# Altium schematic symbol library MCU_ST_STM32H7.SchLib: 225 symbols (part 5 of 9)
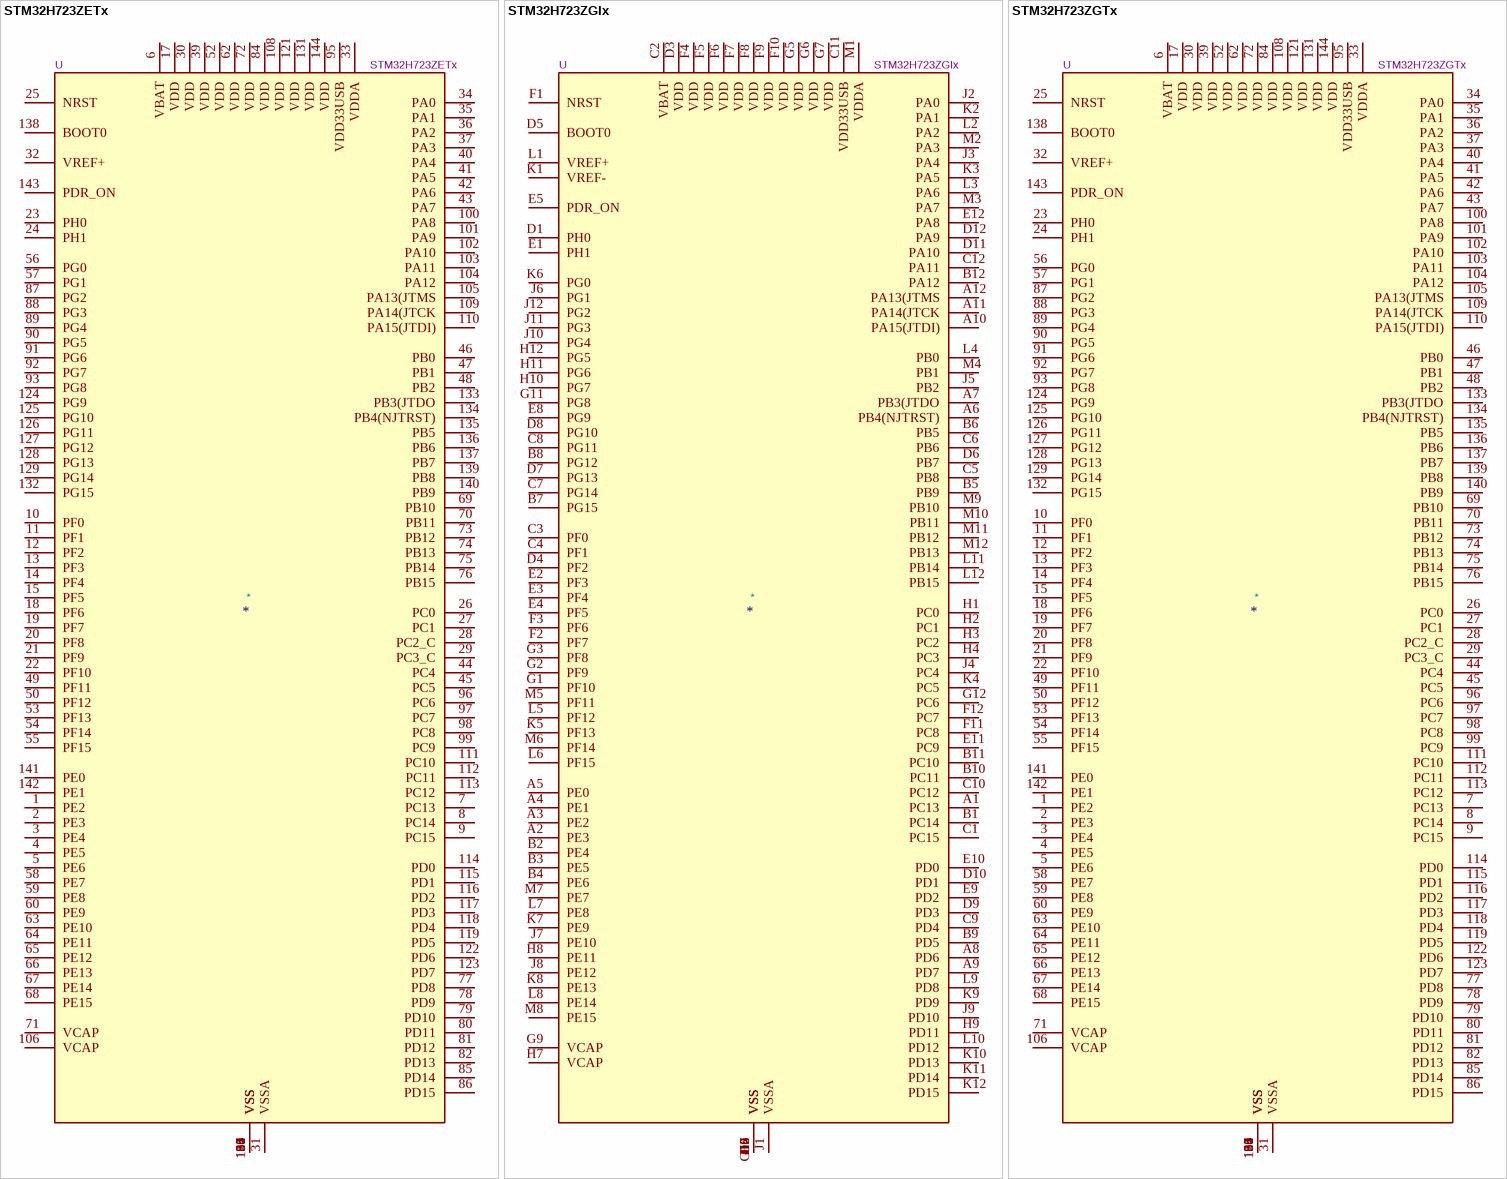
[diagram p91: symbols STM32H723ZETx to STM32H723ZGTx]

## STM32H723ZGTx
designator *  value STM32H723ZGTx  Reference: U
STMicroelectronics Arm Cortex-M7 MCU, 1024KB flash, 564KB RAM, 550 MHz, 1.62-3.6V, 114 GPIO, LQFP144; ki_keywords: Arm Cortex-M7 STM32H7 STM32H723/733; ki_fp_filters: LQFP*20x20mm*P0.5mm*; Footprint: Package_QFP:LQFP-144_20x20mm_P0.5mm; Datasheet: https://www.st.com/resource/en/datasheet/stm32h723zg.pdf; Description_: STMicroelectronics Arm Cortex-M7 MCU, 1024KB flash, 564KB RAM, 550 MHz, 1.62-3.6V, 114 GPIO, LQFP144
pins: 1 PE2, 2 PE3, 3 PE4, 4 PE5, 5 PE6, 6 VBAT, 7 PC13, 8 PC14, 9 PC15, 10 PF0, 11 PF1, 12 PF2, 13 PF3, 14 PF4, 15 PF5, 16 VSS, 17 VDD, 18 PF6, 19 PF7, 20 PF8, 21 PF9, 22 PF10, 23 PH0, 24 PH1, 25 NRST, 26 PC0, 27 PC1, 28 PC2_C, 29 PC3_C, 30 VDD, 31 VSSA, 32 VREF+, 33 VDDA, 34 PA0, 35 PA1, 36 PA2, 37 PA3, 38 VSS, 39 VDD, 40 PA4, 41 PA5, 42 PA6, 43 PA7, 44 PC4, 45 PC5, 46 PB0, 47 PB1, 48 PB2, 49 PF11, 50 PF12, 51 VSS, 52 VDD, 53 PF13, 54 PF14, 55 PF15, 56 PG0, 57 PG1, 58 PE7, 59 PE8, 60 PE9, 61 VSS, 62 VDD, 63 PE10, 64 PE11, 65 PE12, 66 PE13, 67 PE14, 68 PE15, 69 PB10, 70 PB11, 71 VCAP, 72 VDD, 73 PB12, 74 PB13, 75 PB14, 76 PB15, 77 PD8, 78 PD9, 79 PD10, 80 PD11, 81 PD12, 82 PD13, 83 VSS, 84 VDD, 85 PD14, 86 PD15, 87 PG2, 88 PG3, 89 PG4, 90 PG5, 91 PG6, 92 PG7, 93 PG8, 94 VSS, 95 VDD33USB, 96 PC6, 97 PC7, 98 PC8, 99 PC9, 100 PA8, 101 PA9, 102 PA10, 103 PA11, 104 PA12, 105 PA13(JTMS, 106 VCAP, 107 VSS, 108 VDD, 109 PA14(JTCK, 110 PA15(JTDI), 111 PC10, 112 PC11, 113 PC12, 114 PD0, 115 PD1, 116 PD2, 117 PD3, 118 PD4, 119 PD5, 120 VSS, 121 VDD, 122 PD6, 123 PD7, 124 PG9, 125 PG10, 126 PG11, 127 PG12, 128 PG13, 129 PG14, 130 VSS, 131 VDD, 132 PG15, 133 PB3(JTDO, 134 PB4(NJTRST), 135 PB5, 136 PB6, 137 PB7, 138 BOOT0, 139 PB8, 140 PB9, 141 PE0, 142 PE1, 143 PDR_ON, 144 VDD

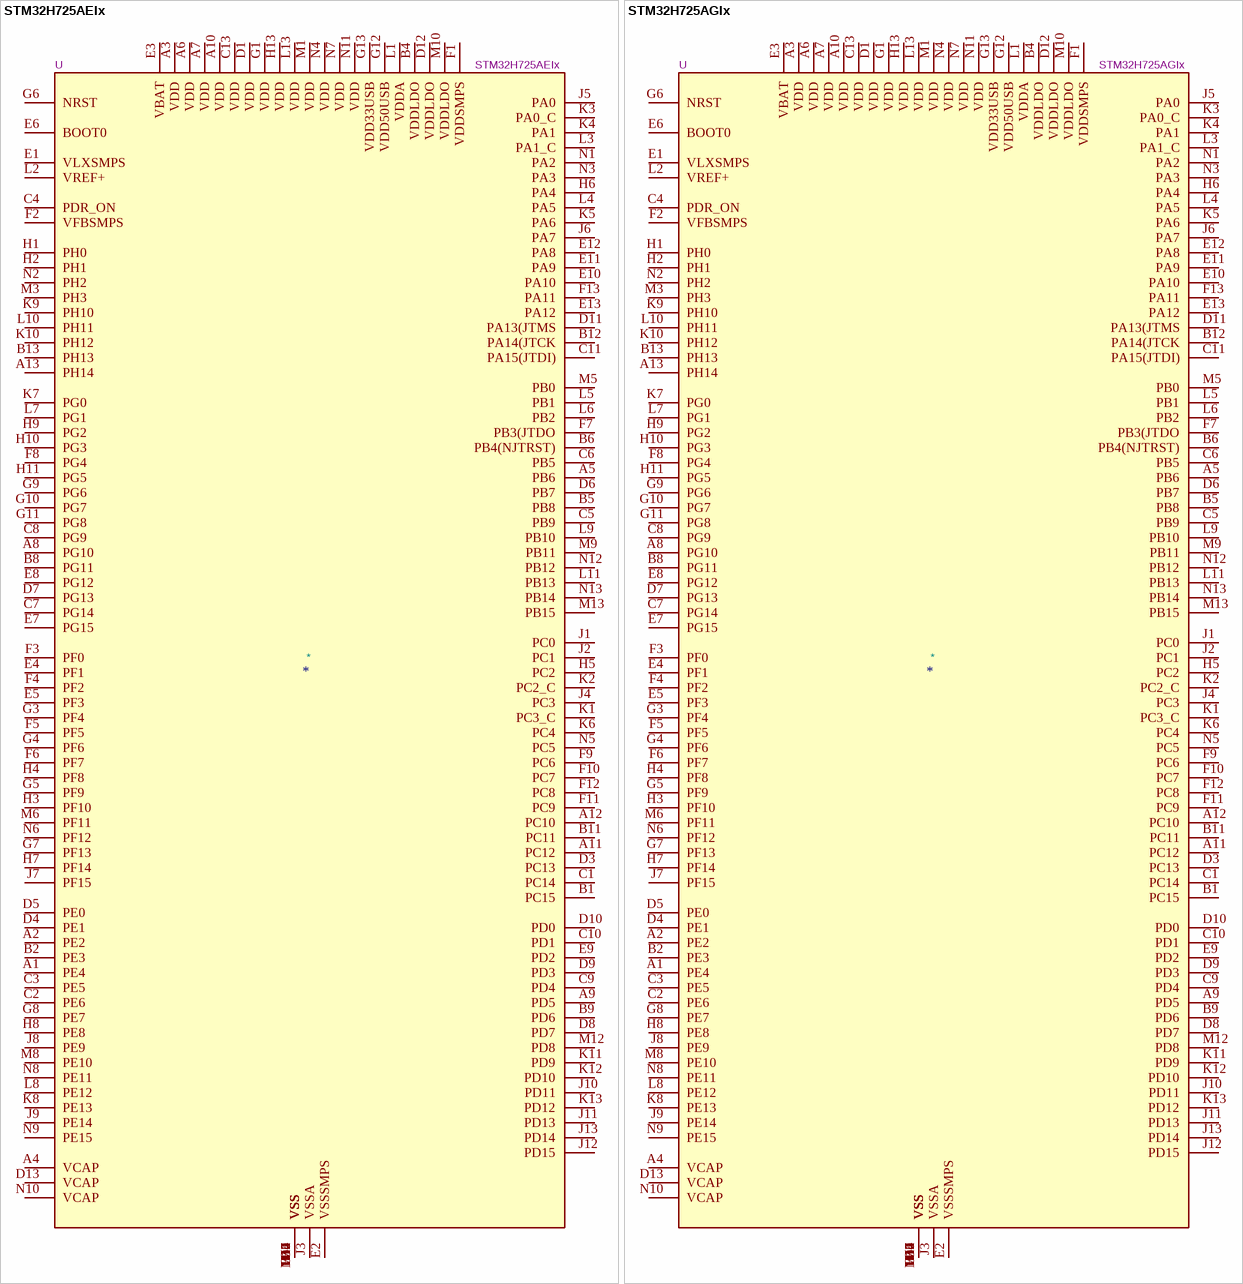
[diagram p41: symbols STM32H725AEIx to STM32H725AGIx]

## STM32H725AEIx
designator *  value STM32H725AEIx  Reference: U
STMicroelectronics Arm Cortex-M7 MCU, 512KB flash, 564KB RAM, 550 MHz, 1.62-3.6V, 125 GPIO, UFBGA169; ki_keywords: Arm Cortex-M7 STM32H7 STM32H725/735; ki_fp_filters: UFBGA*7x7mm*Layout13x13*P0.5mm*; Footprint: Package_BGA:UFBGA-169_7x7mm_Layout13x13_P0.5mm; Datasheet: https://www.st.com/resource/en/datasheet/stm32h725ae.pdf; Description_: STMicroelectronics Arm Cortex-M7 MCU, 512KB flash, 564KB RAM, 550 MHz, 1.62-3.6V, 125 GPIO, UFBGA169
pins: A1 PE4, A2 PE2, A3 VDD, A4 VCAP, A5 PB6, A6 VDD, A7 VDD, A8 PG10, A9 PD5, A10 VDD, A11 PC12, A12 PC10, A13 PH14, B1 PC15, B2 PE3, B3 VSS, B4 VDDLDO, B5 PB8, B6 PB4(NJTRST), B7 VSS, B8 PG11, B9 PD6, B10 VSS, B11 PC11, B12 PA14(JTCK, B13 PH13, C1 PC14, C2 PE6, C3 PE5, C4 PDR_ON, C5 PB9, C6 PB5, C7 PG14, C8 PG9, C9 PD4, C10 PD1, C11 PA15(JTDI), C12 VSS, C13 VDD, D1 VDD, D2 VSS, D3 PC13, D4 PE1, D5 PE0, D6 PB7, D7 PG13, D8 PD7, D9 PD3, D10 PD0, D11 PA13(JTMS, D12 VDDLDO, D13 VCAP, E1 VLXSMPS, E2 VSSSMPS, E3 VBAT, E4 PF1, E5 PF3, E6 BOOT0, E7 PG15, E8 PG12, E9 PD2, E10 PA10, E11 PA9, E12 PA8, E13 PA12, F1 VDDSMPS, F2 VFBSMPS, F3 PF0, F4 PF2, F5 PF5, F6 PF7, F7 PB3(JTDO, F8 PG4, F9 PC6, F10 PC7, F11 PC9, F12 PC8, F13 PA11, G1 VDD, G2 VSS, G3 PF4, G4 PF6, G5 PF9, G6 NRST, G7 PF13, G8 PE7, G9 PG6, G10 PG7, G11 PG8, G12 VDD50USB, G13 VDD33USB, H1 PH0, H2 PH1, H3 PF10, H4 PF8, H5 PC2, H6 PA4, H7 PF14, H8 PE8, H9 PG2, H10 PG3, H11 PG5, H12 VSS, H13 VDD, J1 PC0, J2 PC1, J3 VSSA, J4 PC3, J5 PA0, J6 PA7, J7 PF15, J8 PE9, J9 PE14, J10 PD11, J11 PD13, J12 PD15, J13 PD14, K1 PC3_C, K2 PC2_C, K3 PA0_C, K4 PA1, K5 PA6, K6 PC4, K7 PG0, K8 PE13, K9 PH10, K10 PH12, K11 PD9, K12 PD10, K13 PD12, L1 VDDA, L2 VREF+, L3 PA1_C, L4 PA5, L5 PB1, L6 PB2, L7 PG1, L8 PE12, L9 PB10, L10 PH11, L11 PB13, L12 VSS, L13 VDD, M1 VDD, M2 VSS, M3 PH3, M4 VSS, M5 PB0, M6 PF11, M7 VSS, M8 PE10, M9 PB11, M10 VDDLDO, M11 VSS, M12 PD8, M13 PB15, N1 PA2, N2 PH2, N3 PA3, N4 VDD, N5 PC5, N6 PF12, N7 VDD, N8 PE11, N9 PE15, N10 VCAP, N11 VDD, N12 PB12, N13 PB14

## STM32H725AGIx
designator *  value STM32H725AGIx  Reference: U
STMicroelectronics Arm Cortex-M7 MCU, 1024KB flash, 564KB RAM, 550 MHz, 1.62-3.6V, 125 GPIO, UFBGA169; ki_keywords: Arm Cortex-M7 STM32H7 STM32H725/735; ki_fp_filters: UFBGA*7x7mm*Layout13x13*P0.5mm*; Footprint: Package_BGA:UFBGA-169_7x7mm_Layout13x13_P0.5mm; Datasheet: https://www.st.com/resource/en/datasheet/stm32h725ag.pdf; Description_: STMicroelectronics Arm Cortex-M7 MCU, 1024KB flash, 564KB RAM, 550 MHz, 1.62-3.6V, 125 GPIO, UFBGA169
pins: A1 PE4, A2 PE2, A3 VDD, A4 VCAP, A5 PB6, A6 VDD, A7 VDD, A8 PG10, A9 PD5, A10 VDD, A11 PC12, A12 PC10, A13 PH14, B1 PC15, B2 PE3, B3 VSS, B4 VDDLDO, B5 PB8, B6 PB4(NJTRST), B7 VSS, B8 PG11, B9 PD6, B10 VSS, B11 PC11, B12 PA14(JTCK, B13 PH13, C1 PC14, C2 PE6, C3 PE5, C4 PDR_ON, C5 PB9, C6 PB5, C7 PG14, C8 PG9, C9 PD4, C10 PD1, C11 PA15(JTDI), C12 VSS, C13 VDD, D1 VDD, D2 VSS, D3 PC13, D4 PE1, D5 PE0, D6 PB7, D7 PG13, D8 PD7, D9 PD3, D10 PD0, D11 PA13(JTMS, D12 VDDLDO, D13 VCAP, E1 VLXSMPS, E2 VSSSMPS, E3 VBAT, E4 PF1, E5 PF3, E6 BOOT0, E7 PG15, E8 PG12, E9 PD2, E10 PA10, E11 PA9, E12 PA8, E13 PA12, F1 VDDSMPS, F2 VFBSMPS, F3 PF0, F4 PF2, F5 PF5, F6 PF7, F7 PB3(JTDO, F8 PG4, F9 PC6, F10 PC7, F11 PC9, F12 PC8, F13 PA11, G1 VDD, G2 VSS, G3 PF4, G4 PF6, G5 PF9, G6 NRST, G7 PF13, G8 PE7, G9 PG6, G10 PG7, G11 PG8, G12 VDD50USB, G13 VDD33USB, H1 PH0, H2 PH1, H3 PF10, H4 PF8, H5 PC2, H6 PA4, H7 PF14, H8 PE8, H9 PG2, H10 PG3, H11 PG5, H12 VSS, H13 VDD, J1 PC0, J2 PC1, J3 VSSA, J4 PC3, J5 PA0, J6 PA7, J7 PF15, J8 PE9, J9 PE14, J10 PD11, J11 PD13, J12 PD15, J13 PD14, K1 PC3_C, K2 PC2_C, K3 PA0_C, K4 PA1, K5 PA6, K6 PC4, K7 PG0, K8 PE13, K9 PH10, K10 PH12, K11 PD9, K12 PD10, K13 PD12, L1 VDDA, L2 VREF+, L3 PA1_C, L4 PA5, L5 PB1, L6 PB2, L7 PG1, L8 PE12, L9 PB10, L10 PH11, L11 PB13, L12 VSS, L13 VDD, M1 VDD, M2 VSS, M3 PH3, M4 VSS, M5 PB0, M6 PF11, M7 VSS, M8 PE10, M9 PB11, M10 VDDLDO, M11 VSS, M12 PD8, M13 PB15, N1 PA2, N2 PH2, N3 PA3, N4 VDD, N5 PC5, N6 PF12, N7 VDD, N8 PE11, N9 PE15, N10 VCAP, N11 VDD, N12 PB12, N13 PB14

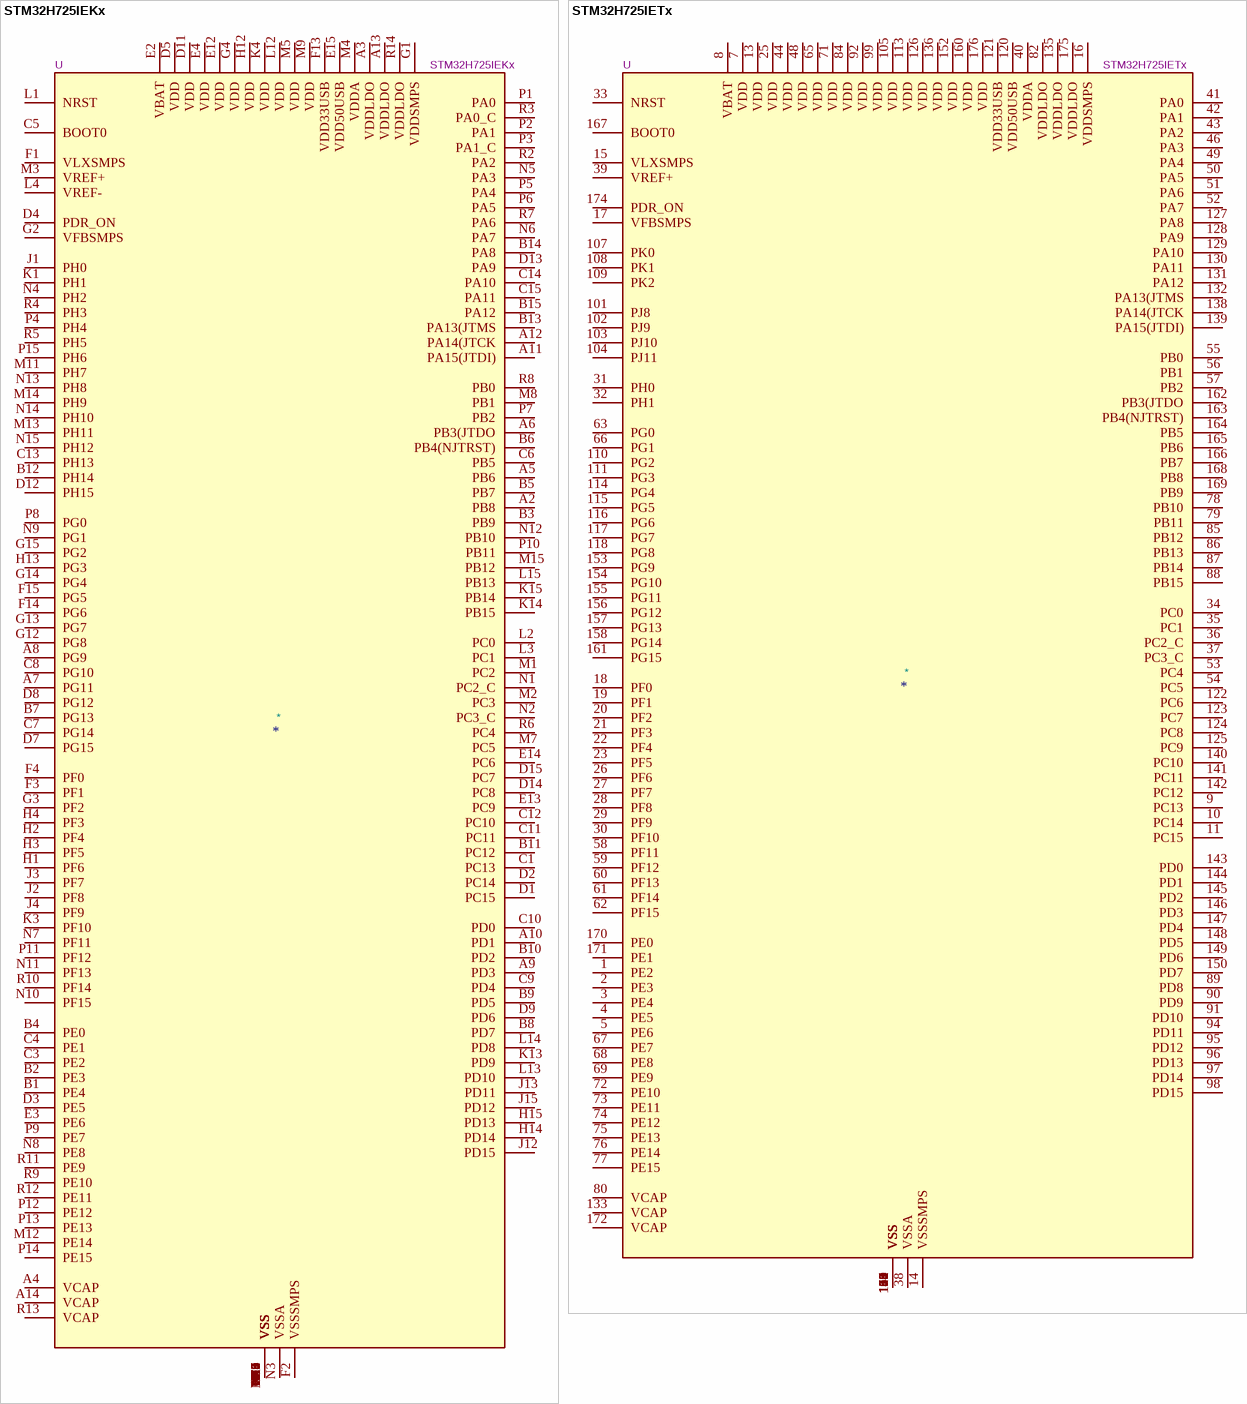
[diagram p42: symbols STM32H725IEKx to STM32H725IETx]

## STM32H725IEKx
designator *  value STM32H725IEKx  Reference: U
STMicroelectronics Arm Cortex-M7 MCU, 512KB flash, 564KB RAM, 550 MHz, 1.62-3.6V, 132 GPIO, UFBGA176; ki_keywords: Arm Cortex-M7 STM32H7 STM32H725/735; ki_fp_filters: UFBGA*10x10mm*Layout15x15*P0.65mm*; Footprint: Package_BGA:UFBGA-201_10x10mm_Layout15x15_P0.65mm; Datasheet: https://www.st.com/resource/en/datasheet/stm32h725ie.pdf; Description_: STMicroelectronics Arm Cortex-M7 MCU, 512KB flash, 564KB RAM, 550 MHz, 1.62-3.6V, 132 GPIO, UFBGA176
pins: A1 VSS, A2 PB8, A3 VDDLDO, A4 VCAP, A5 PB6, A6 PB3(JTDO, A7 PG11, A8 PG9, A9 PD3, A10 PD1, A11 PA15(JTDI), A12 PA14(JTCK, A13 VDDLDO, A14 VCAP, A15 VSS, B1 PE4, B2 PE3, B3 PB9, B4 PE0, B5 PB7, B6 PB4(NJTRST), B7 PG13, B8 PD7, B9 PD5, B10 PD2, B11 PC12, B12 PH14, B13 PA13(JTMS, B14 PA8, B15 PA12, C1 PC13, C2 VSS, C3 PE2, C4 PE1, C5 BOOT0, C6 PB5, C7 PG14, C8 PG10, C9 PD4, C10 PD0, C11 PC11, C12 PC10, C13 PH13, C14 PA10, C15 PA11, D1 PC15, D2 PC14, D3 PE5, D4 PDR_ON, D5 VDD, D6 VSS, D7 PG15, D8 PG12, D9 PD6, D10 VSS, D11 VDD, D12 PH15, D13 PA9, D14 PC8, D15 PC7, E1 VSS, E2 VBAT, E3 PE6, E4 VDD, E12 VDD, E13 PC9, E14 PC6, E15 VDD50USB, F1 VLXSMPS, F2 VSSSMPS, F3 PF1, F4 PF0, F6 VSS, F7 VSS, F8 VSS, F9 VSS, F10 VSS, F12 VSS, F13 VDD33USB, F14 PG6, F15 PG5, G1 VDDSMPS, G2 VFBSMPS, G3 PF2, G4 VDD, G6 VSS, G7 VSS, G8 VSS, G9 VSS, G10 VSS, G12 PG8, G13 PG7, G14 PG4, G15 PG2, H1 PF6, H2 PF4, H3 PF5, H4 PF3, H6 VSS, H7 VSS, H8 VSS, H9 VSS, H10 VSS, H12 VDD, H13 PG3, H14 PD14, H15 PD13, J1 PH0, J2 PF8, J3 PF7, J4 PF9, J6 VSS, J7 VSS, J8 VSS, J9 VSS, J10 VSS, J12 PD15, J13 PD11, J14 VSS, J15 PD12, K1 PH1, K2 VSS, K3 PF10, K4 VDD, K6 VSS, K7 VSS, K8 VSS, K9 VSS, K10 VSS, K12 VSS, K13 PD9, K14 PB15, K15 PB14, L1 NRST, L2 PC0, L3 PC1, L4 VREF-, L12 VDD, L13 PD10, L14 PD8, L15 PB13, M1 PC2, M2 PC3, M3 VREF+, M4 VDDA, M5 VDD, M6 VSS, M7 PC5, M8 PB1, M9 VDD, M10 VSS, M11 PH7, M12 PE14, M13 PH11, M14 PH9, M15 PB12, N1 PC2_C, N2 PC3_C, N3 VSSA, N4 PH2, N5 PA3, N6 PA7, N7 PF11, N8 PE8, N9 PG1, N10 PF15, N11 PF13, N12 PB10, N13 PH8, N14 PH10, N15 PH12, P1 PA0, P2 PA1, P3 PA1_C, P4 PH4, P5 PA4, P6 PA5, P7 PB2, P8 PG0, P9 PE7, P10 PB11, P11 PF12, P12 PE12, P13 PE13, P14 PE15, P15 PH6, R1 VSS, R2 PA2, R3 PA0_C, R4 PH3, R5 PH5, R6 PC4, R7 PA6, R8 PB0, R9 PE10, R10 PF14, R11 PE9, R12 PE11, R13 VCAP, R14 VDDLDO, R15 VSS

## STM32H725IETx
designator *  value STM32H725IETx  Reference: U
STMicroelectronics Arm Cortex-M7 MCU, 512KB flash, 564KB RAM, 550 MHz, 1.62-3.6V, 121 GPIO, LQFP176; ki_keywords: Arm Cortex-M7 STM32H7 STM32H725/735; ki_fp_filters: LQFP*24x24mm*P0.5mm*; Footprint: Package_QFP:LQFP-176_24x24mm_P0.5mm; Datasheet: https://www.st.com/resource/en/datasheet/stm32h725ie.pdf; Description_: STMicroelectronics Arm Cortex-M7 MCU, 512KB flash, 564KB RAM, 550 MHz, 1.62-3.6V, 121 GPIO, LQFP176
pins: 1 PE2, 2 PE3, 3 PE4, 4 PE5, 5 PE6, 6 VSS, 7 VDD, 8 VBAT, 9 PC13, 10 PC14, 11 PC15, 12 VSS, 13 VDD, 14 VSSSMPS, 15 VLXSMPS, 16 VDDSMPS, 17 VFBSMPS, 18 PF0, 19 PF1, 20 PF2, 21 PF3, 22 PF4, 23 PF5, 24 VSS, 25 VDD, 26 PF6, 27 PF7, 28 PF8, 29 PF9, 30 PF10, 31 PH0, 32 PH1, 33 NRST, 34 PC0, 35 PC1, 36 PC2_C, 37 PC3_C, 38 VSSA, 39 VREF+, 40 VDDA, 41 PA0, 42 PA1, 43 PA2, 44 VDD, 45 VSS, 46 PA3, 47 VSS, 48 VDD, 49 PA4, 50 PA5, 51 PA6, 52 PA7, 53 PC4, 54 PC5, 55 PB0, 56 PB1, 57 PB2, 58 PF11, 59 PF12, 60 PF13, 61 PF14, 62 PF15, 63 PG0, 64 VSS, 65 VDD, 66 PG1, 67 PE7, 68 PE8, 69 PE9, 70 VSS, 71 VDD, 72 PE10, 73 PE11, 74 PE12, 75 PE13, 76 PE14, 77 PE15, 78 PB10, 79 PB11, 80 VCAP, 81 VSS, 82 VDDLDO, 83 VSS, 84 VDD, 85 PB12, 86 PB13, 87 PB14, 88 PB15, 89 PD8, 90 PD9, 91 PD10, 92 VDD, 93 VSS, 94 PD11, 95 PD12, 96 PD13, 97 PD14, 98 PD15, 99 VDD, 100 VSS, 101 PJ8, 102 PJ9, 103 PJ10, 104 PJ11, 105 VDD, 106 VSS, 107 PK0, 108 PK1, 109 PK2, 110 PG2, 111 PG3, 112 VSS, 113 VDD, 114 PG4, 115 PG5, 116 PG6, 117 PG7, 118 PG8, 119 VSS, 120 VDD50USB, 121 VDD33USB, 122 PC6, 123 PC7, 124 PC8, 125 PC9, 126 VDD, 127 PA8, 128 PA9, 129 PA10, 130 PA11, 131 PA12, 132 PA13(JTMS, 133 VCAP, 134 VSS, 135 VDDLDO, 136 VDD, 137 VSS, 138 PA14(JTCK, 139 PA15(JTDI), 140 PC10, 141 PC11, 142 PC12, 143 PD0, 144 PD1, 145 PD2, 146 PD3, 147 PD4, 148 PD5, 149 PD6, 150 PD7, 151 VSS, 152 VDD, 153 PG9, 154 PG10, 155 PG11, 156 PG12, 157 PG13, 158 PG14, 159 VSS, 160 VDD, 161 PG15, 162 PB3(JTDO, 163 PB4(NJTRST), 164 PB5, 165 PB6, 166 PB7, 167 BOOT0, 168 PB8, 169 PB9, 170 PE0, 171 PE1, 172 VCAP, 173 VSS, 174 PDR_ON, 175 VDDLDO, 176 VDD

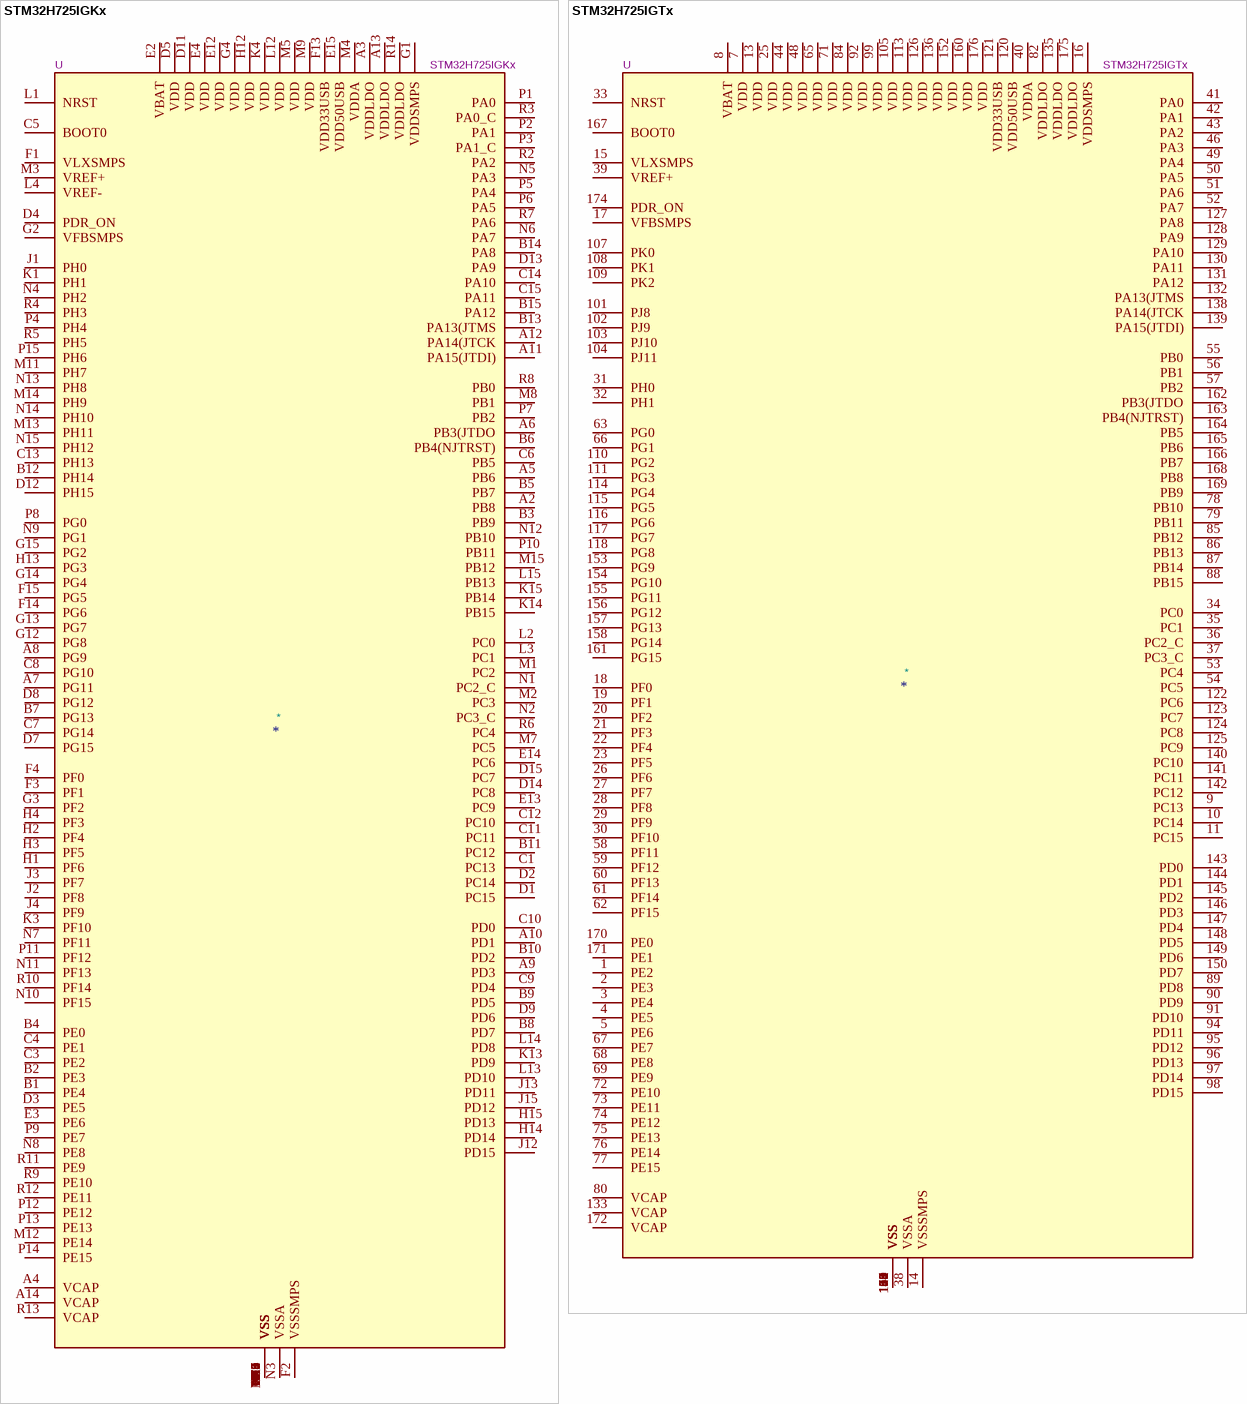
[diagram p43: symbols STM32H725IGKx to STM32H725IGTx]

## STM32H725IGKx
designator *  value STM32H725IGKx  Reference: U
STMicroelectronics Arm Cortex-M7 MCU, 1024KB flash, 564KB RAM, 550 MHz, 1.62-3.6V, 132 GPIO, UFBGA176; ki_keywords: Arm Cortex-M7 STM32H7 STM32H725/735; ki_fp_filters: UFBGA*10x10mm*Layout15x15*P0.65mm*; Footprint: Package_BGA:UFBGA-201_10x10mm_Layout15x15_P0.65mm; Datasheet: https://www.st.com/resource/en/datasheet/stm32h725ig.pdf; Description_: STMicroelectronics Arm Cortex-M7 MCU, 1024KB flash, 564KB RAM, 550 MHz, 1.62-3.6V, 132 GPIO, UFBGA176
pins: A1 VSS, A2 PB8, A3 VDDLDO, A4 VCAP, A5 PB6, A6 PB3(JTDO, A7 PG11, A8 PG9, A9 PD3, A10 PD1, A11 PA15(JTDI), A12 PA14(JTCK, A13 VDDLDO, A14 VCAP, A15 VSS, B1 PE4, B2 PE3, B3 PB9, B4 PE0, B5 PB7, B6 PB4(NJTRST), B7 PG13, B8 PD7, B9 PD5, B10 PD2, B11 PC12, B12 PH14, B13 PA13(JTMS, B14 PA8, B15 PA12, C1 PC13, C2 VSS, C3 PE2, C4 PE1, C5 BOOT0, C6 PB5, C7 PG14, C8 PG10, C9 PD4, C10 PD0, C11 PC11, C12 PC10, C13 PH13, C14 PA10, C15 PA11, D1 PC15, D2 PC14, D3 PE5, D4 PDR_ON, D5 VDD, D6 VSS, D7 PG15, D8 PG12, D9 PD6, D10 VSS, D11 VDD, D12 PH15, D13 PA9, D14 PC8, D15 PC7, E1 VSS, E2 VBAT, E3 PE6, E4 VDD, E12 VDD, E13 PC9, E14 PC6, E15 VDD50USB, F1 VLXSMPS, F2 VSSSMPS, F3 PF1, F4 PF0, F6 VSS, F7 VSS, F8 VSS, F9 VSS, F10 VSS, F12 VSS, F13 VDD33USB, F14 PG6, F15 PG5, G1 VDDSMPS, G2 VFBSMPS, G3 PF2, G4 VDD, G6 VSS, G7 VSS, G8 VSS, G9 VSS, G10 VSS, G12 PG8, G13 PG7, G14 PG4, G15 PG2, H1 PF6, H2 PF4, H3 PF5, H4 PF3, H6 VSS, H7 VSS, H8 VSS, H9 VSS, H10 VSS, H12 VDD, H13 PG3, H14 PD14, H15 PD13, J1 PH0, J2 PF8, J3 PF7, J4 PF9, J6 VSS, J7 VSS, J8 VSS, J9 VSS, J10 VSS, J12 PD15, J13 PD11, J14 VSS, J15 PD12, K1 PH1, K2 VSS, K3 PF10, K4 VDD, K6 VSS, K7 VSS, K8 VSS, K9 VSS, K10 VSS, K12 VSS, K13 PD9, K14 PB15, K15 PB14, L1 NRST, L2 PC0, L3 PC1, L4 VREF-, L12 VDD, L13 PD10, L14 PD8, L15 PB13, M1 PC2, M2 PC3, M3 VREF+, M4 VDDA, M5 VDD, M6 VSS, M7 PC5, M8 PB1, M9 VDD, M10 VSS, M11 PH7, M12 PE14, M13 PH11, M14 PH9, M15 PB12, N1 PC2_C, N2 PC3_C, N3 VSSA, N4 PH2, N5 PA3, N6 PA7, N7 PF11, N8 PE8, N9 PG1, N10 PF15, N11 PF13, N12 PB10, N13 PH8, N14 PH10, N15 PH12, P1 PA0, P2 PA1, P3 PA1_C, P4 PH4, P5 PA4, P6 PA5, P7 PB2, P8 PG0, P9 PE7, P10 PB11, P11 PF12, P12 PE12, P13 PE13, P14 PE15, P15 PH6, R1 VSS, R2 PA2, R3 PA0_C, R4 PH3, R5 PH5, R6 PC4, R7 PA6, R8 PB0, R9 PE10, R10 PF14, R11 PE9, R12 PE11, R13 VCAP, R14 VDDLDO, R15 VSS

## STM32H725IGTx
designator *  value STM32H725IGTx  Reference: U
STMicroelectronics Arm Cortex-M7 MCU, 1024KB flash, 564KB RAM, 550 MHz, 1.62-3.6V, 121 GPIO, LQFP176; ki_keywords: Arm Cortex-M7 STM32H7 STM32H725/735; ki_fp_filters: LQFP*24x24mm*P0.5mm*; Footprint: Package_QFP:LQFP-176_24x24mm_P0.5mm; Datasheet: https://www.st.com/resource/en/datasheet/stm32h725ig.pdf; Description_: STMicroelectronics Arm Cortex-M7 MCU, 1024KB flash, 564KB RAM, 550 MHz, 1.62-3.6V, 121 GPIO, LQFP176
pins: 1 PE2, 2 PE3, 3 PE4, 4 PE5, 5 PE6, 6 VSS, 7 VDD, 8 VBAT, 9 PC13, 10 PC14, 11 PC15, 12 VSS, 13 VDD, 14 VSSSMPS, 15 VLXSMPS, 16 VDDSMPS, 17 VFBSMPS, 18 PF0, 19 PF1, 20 PF2, 21 PF3, 22 PF4, 23 PF5, 24 VSS, 25 VDD, 26 PF6, 27 PF7, 28 PF8, 29 PF9, 30 PF10, 31 PH0, 32 PH1, 33 NRST, 34 PC0, 35 PC1, 36 PC2_C, 37 PC3_C, 38 VSSA, 39 VREF+, 40 VDDA, 41 PA0, 42 PA1, 43 PA2, 44 VDD, 45 VSS, 46 PA3, 47 VSS, 48 VDD, 49 PA4, 50 PA5, 51 PA6, 52 PA7, 53 PC4, 54 PC5, 55 PB0, 56 PB1, 57 PB2, 58 PF11, 59 PF12, 60 PF13, 61 PF14, 62 PF15, 63 PG0, 64 VSS, 65 VDD, 66 PG1, 67 PE7, 68 PE8, 69 PE9, 70 VSS, 71 VDD, 72 PE10, 73 PE11, 74 PE12, 75 PE13, 76 PE14, 77 PE15, 78 PB10, 79 PB11, 80 VCAP, 81 VSS, 82 VDDLDO, 83 VSS, 84 VDD, 85 PB12, 86 PB13, 87 PB14, 88 PB15, 89 PD8, 90 PD9, 91 PD10, 92 VDD, 93 VSS, 94 PD11, 95 PD12, 96 PD13, 97 PD14, 98 PD15, 99 VDD, 100 VSS, 101 PJ8, 102 PJ9, 103 PJ10, 104 PJ11, 105 VDD, 106 VSS, 107 PK0, 108 PK1, 109 PK2, 110 PG2, 111 PG3, 112 VSS, 113 VDD, 114 PG4, 115 PG5, 116 PG6, 117 PG7, 118 PG8, 119 VSS, 120 VDD50USB, 121 VDD33USB, 122 PC6, 123 PC7, 124 PC8, 125 PC9, 126 VDD, 127 PA8, 128 PA9, 129 PA10, 130 PA11, 131 PA12, 132 PA13(JTMS, 133 VCAP, 134 VSS, 135 VDDLDO, 136 VDD, 137 VSS, 138 PA14(JTCK, 139 PA15(JTDI), 140 PC10, 141 PC11, 142 PC12, 143 PD0, 144 PD1, 145 PD2, 146 PD3, 147 PD4, 148 PD5, 149 PD6, 150 PD7, 151 VSS, 152 VDD, 153 PG9, 154 PG10, 155 PG11, 156 PG12, 157 PG13, 158 PG14, 159 VSS, 160 VDD, 161 PG15, 162 PB3(JTDO, 163 PB4(NJTRST), 164 PB5, 165 PB6, 166 PB7, 167 BOOT0, 168 PB8, 169 PB9, 170 PE0, 171 PE1, 172 VCAP, 173 VSS, 174 PDR_ON, 175 VDDLDO, 176 VDD

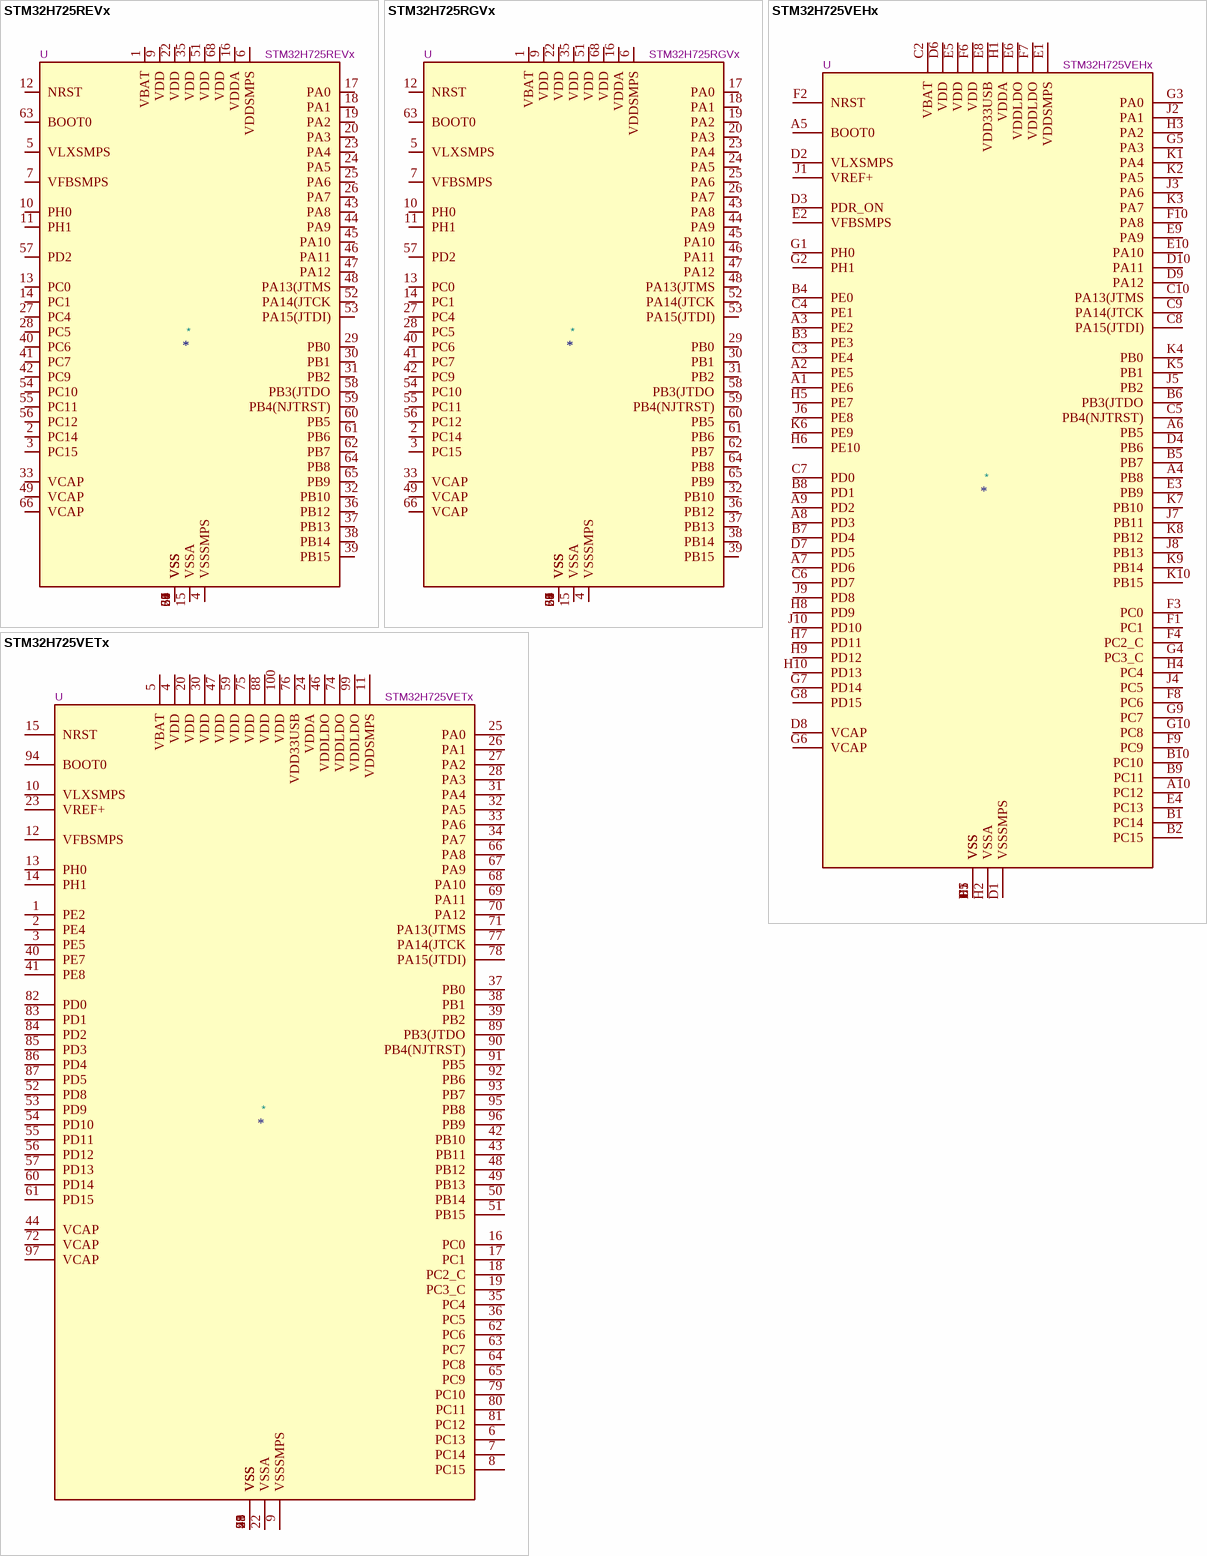
[diagram p44: symbols STM32H725REVx to STM32H725VETx]

## STM32H725REVx
designator *  value STM32H725REVx  Reference: U
STMicroelectronics Arm Cortex-M7 MCU, 512KB flash, 564KB RAM, 550 MHz, 1.71-3.6V, 46 GPIO, VFQFPN68; ki_keywords: Arm Cortex-M7 STM32H7 STM32H725/735; ki_fp_filters: QFN*1EP*8x8mm*P0.4mm*; Footprint: Package_DFN_QFN:QFN-68-1EP_8x8mm_P0.4mm_EP6.4x6.4mm; Datasheet: https://www.st.com/resource/en/datasheet/stm32h725re.pdf; Description_: STMicroelectronics Arm Cortex-M7 MCU, 512KB flash, 564KB RAM, 550 MHz, 1.71-3.6V, 46 GPIO, VFQFPN68
pins: 1 VBAT, 2 PC14, 3 PC15, 4 VSSSMPS, 5 VLXSMPS, 6 VDDSMPS, 7 VFBSMPS, 8 VSS, 9 VDD, 10 PH0, 11 PH1, 12 NRST, 13 PC0, 14 PC1, 15 VSSA, 16 VDDA, 17 PA0, 18 PA1, 19 PA2, 20 PA3, 21 VSS, 22 VDD, 23 PA4, 24 PA5, 25 PA6, 26 PA7, 27 PC4, 28 PC5, 29 PB0, 30 PB1, 31 PB2, 32 PB10, 33 VCAP, 34 VSS, 35 VDD, 36 PB12, 37 PB13, 38 PB14, 39 PB15, 40 PC6, 41 PC7, 42 PC9, 43 PA8, 44 PA9, 45 PA10, 46 PA11, 47 PA12, 48 PA13(JTMS, 49 VCAP, 50 VSS, 51 VDD, 52 PA14(JTCK, 53 PA15(JTDI), 54 PC10, 55 PC11, 56 PC12, 57 PD2, 58 PB3(JTDO, 59 PB4(NJTRST), 60 PB5, 61 PB6, 62 PB7, 63 BOOT0, 64 PB8, 65 PB9, 66 VCAP, 67 VSS, 68 VDD, 69 VSS

## STM32H725RGVx
designator *  value STM32H725RGVx  Reference: U
STMicroelectronics Arm Cortex-M7 MCU, 1024KB flash, 564KB RAM, 550 MHz, 1.71-3.6V, 46 GPIO, VFQFPN68; ki_keywords: Arm Cortex-M7 STM32H7 STM32H725/735; ki_fp_filters: QFN*1EP*8x8mm*P0.4mm*; Footprint: Package_DFN_QFN:QFN-68-1EP_8x8mm_P0.4mm_EP6.4x6.4mm; Datasheet: https://www.st.com/resource/en/datasheet/stm32h725rg.pdf; Description_: STMicroelectronics Arm Cortex-M7 MCU, 1024KB flash, 564KB RAM, 550 MHz, 1.71-3.6V, 46 GPIO, VFQFPN68
pins: 1 VBAT, 2 PC14, 3 PC15, 4 VSSSMPS, 5 VLXSMPS, 6 VDDSMPS, 7 VFBSMPS, 8 VSS, 9 VDD, 10 PH0, 11 PH1, 12 NRST, 13 PC0, 14 PC1, 15 VSSA, 16 VDDA, 17 PA0, 18 PA1, 19 PA2, 20 PA3, 21 VSS, 22 VDD, 23 PA4, 24 PA5, 25 PA6, 26 PA7, 27 PC4, 28 PC5, 29 PB0, 30 PB1, 31 PB2, 32 PB10, 33 VCAP, 34 VSS, 35 VDD, 36 PB12, 37 PB13, 38 PB14, 39 PB15, 40 PC6, 41 PC7, 42 PC9, 43 PA8, 44 PA9, 45 PA10, 46 PA11, 47 PA12, 48 PA13(JTMS, 49 VCAP, 50 VSS, 51 VDD, 52 PA14(JTCK, 53 PA15(JTDI), 54 PC10, 55 PC11, 56 PC12, 57 PD2, 58 PB3(JTDO, 59 PB4(NJTRST), 60 PB5, 61 PB6, 62 PB7, 63 BOOT0, 64 PB8, 65 PB9, 66 VCAP, 67 VSS, 68 VDD, 69 VSS

## STM32H725VEHx
designator *  value STM32H725VEHx  Reference: U
STMicroelectronics Arm Cortex-M7 MCU, 512KB flash, 564KB RAM, 550 MHz, 1.62-3.6V, 77 GPIO, TFBGA100; ki_keywords: Arm Cortex-M7 STM32H7 STM32H725/735; ki_fp_filters: TFBGA*8x8mm*Layout10x10*P0.8mm*; Footprint: Package_BGA:TFBGA-100_8x8mm_Layout10x10_P0.8mm; Datasheet: https://www.st.com/resource/en/datasheet/stm32h725ve.pdf; Description_: STMicroelectronics Arm Cortex-M7 MCU, 512KB flash, 564KB RAM, 550 MHz, 1.62-3.6V, 77 GPIO, TFBGA100
pins: A1 PE6, A2 PE5, A3 PE2, A4 PB8, A5 BOOT0, A6 PB5, A7 PD6, A8 PD3, A9 PD2, A10 PC12, B1 PC14, B2 PC15, B3 PE3, B4 PE0, B5 PB7, B6 PB3(JTDO, B7 PD4, B8 PD1, B9 PC11, B10 PC10, C1 VSS, C2 VBAT, C3 PE4, C4 PE1, C5 PB4(NJTRST), C6 PD7, C7 PD0, C8 PA15(JTDI), C9 PA14(JTCK, C10 PA13(JTMS, D1 VSSSMPS, D2 VLXSMPS, D3 PDR_ON, D4 PB6, D5 VSS, D6 VDD, D7 PD5, D8 VCAP, D9 PA12, D10 PA11, E1 VDDSMPS, E2 VFBSMPS, E3 PB9, E4 PC13, E5 VDD, E6 VDDLDO, E7 VSS, E8 VDD33USB, E9 PA9, E10 PA10, F1 PC1, F2 NRST, F3 PC0, F4 PC2_C, F5 VSS, F6 VDD, F7 VDDLDO, F8 PC6, F9 PC9, F10 PA8, G1 PH0, G2 PH1, G3 PA0, G4 PC3_C, G5 PA3, G6 VCAP, G7 PD14, G8 PD15, G9 PC7, G10 PC8, H1 VDDA, H2 VSSA, H3 PA2, H4 PC4, H5 PE7, H6 PE10, H7 PD11, H8 PD9, H9 PD12, H10 PD13, J1 VREF+, J2 PA1, J3 PA6, J4 PC5, J5 PB2, J6 PE8, J7 PB11, J8 PB13, J9 PD8, J10 PD10, K1 PA4, K2 PA5, K3 PA7, K4 PB0, K5 PB1, K6 PE9, K7 PB10, K8 PB12, K9 PB14, K10 PB15

## STM32H725VETx
designator *  value STM32H725VETx  Reference: U
STMicroelectronics Arm Cortex-M7 MCU, 512KB flash, 564KB RAM, 550 MHz, 1.71-3.6V, 69 GPIO, LQFP100; ki_keywords: Arm Cortex-M7 STM32H7 STM32H725/735; ki_fp_filters: LQFP*14x14mm*P0.5mm*; Footprint: Package_QFP:LQFP-100_14x14mm_P0.5mm; Datasheet: https://www.st.com/resource/en/datasheet/stm32h725ve.pdf; Description_: STMicroelectronics Arm Cortex-M7 MCU, 512KB flash, 564KB RAM, 550 MHz, 1.71-3.6V, 69 GPIO, LQFP100
pins: 1 PE2, 2 PE4, 3 PE5, 4 VDD, 5 VBAT, 6 PC13, 7 PC14, 8 PC15, 9 VSSSMPS, 10 VLXSMPS, 11 VDDSMPS, 12 VFBSMPS, 13 PH0, 14 PH1, 15 NRST, 16 PC0, 17 PC1, 18 PC2_C, 19 PC3_C, 20 VDD, 21 VSS, 22 VSSA, 23 VREF+, 24 VDDA, 25 PA0, 26 PA1, 27 PA2, 28 PA3, 29 VSS, 30 VDD, 31 PA4, 32 PA5, 33 PA6, 34 PA7, 35 PC4, 36 PC5, 37 PB0, 38 PB1, 39 PB2, 40 PE7, 41 PE8, 42 PB10, 43 PB11, 44 VCAP, 45 VSS, 46 VDDLDO, 47 VDD, 48 PB12, 49 PB13, 50 PB14, 51 PB15, 52 PD8, 53 PD9, 54 PD10, 55 PD11, 56 PD12, 57 PD13, 58 VSS, 59 VDD, 60 PD14, 61 PD15, 62 PC6, 63 PC7, 64 PC8, 65 PC9, 66 PA8, 67 PA9, 68 PA10, 69 PA11, 70 PA12, 71 PA13(JTMS, 72 VCAP, 73 VSS, 74 VDDLDO, 75 VDD, 76 VDD33USB, 77 PA14(JTCK, 78 PA15(JTDI), 79 PC10, 80 PC11, 81 PC12, 82 PD0, 83 PD1, 84 PD2, 85 PD3, 86 PD4, 87 PD5, 88 VDD, 89 PB3(JTDO, 90 PB4(NJTRST), 91 PB5, 92 PB6, 93 PB7, 94 BOOT0, 95 PB8, 96 PB9, 97 VCAP, 98 VSS, 99 VDDLDO, 100 VDD

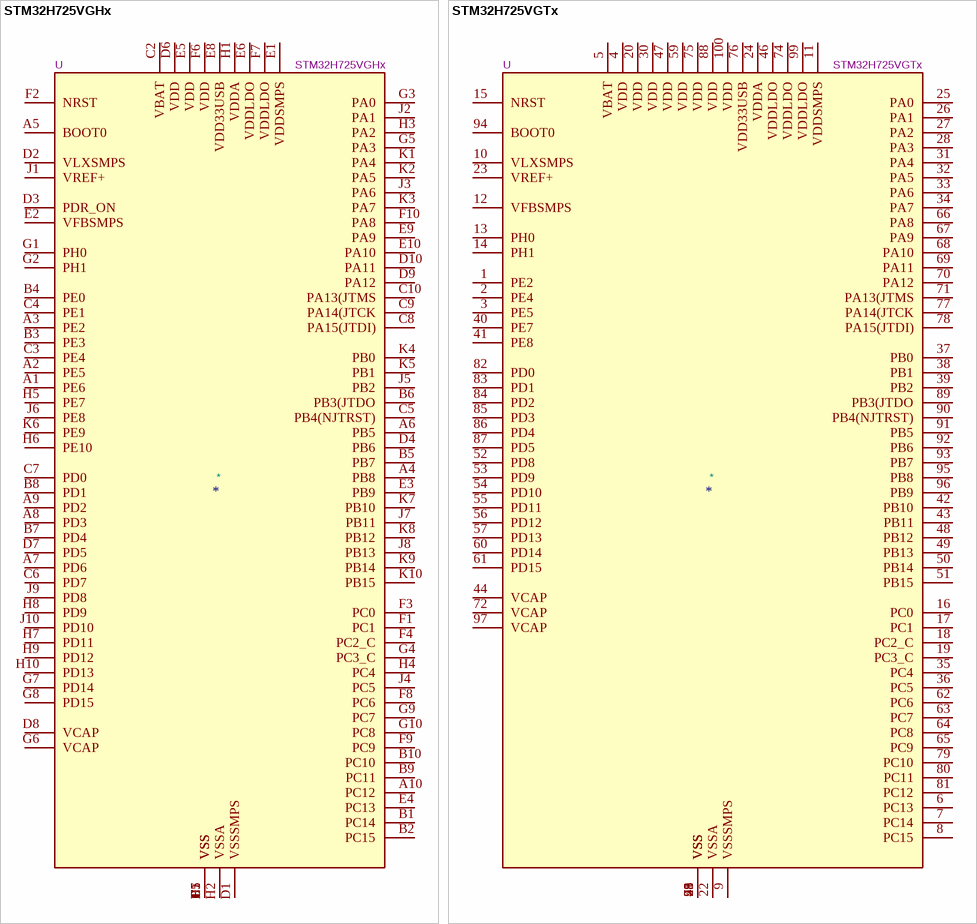
[diagram p45: symbols STM32H725VGHx to STM32H725VGTx]

## STM32H725VGHx
designator *  value STM32H725VGHx  Reference: U
STMicroelectronics Arm Cortex-M7 MCU, 1024KB flash, 564KB RAM, 550 MHz, 1.62-3.6V, 77 GPIO, TFBGA100; ki_keywords: Arm Cortex-M7 STM32H7 STM32H725/735; ki_fp_filters: TFBGA*8x8mm*Layout10x10*P0.8mm*; Footprint: Package_BGA:TFBGA-100_8x8mm_Layout10x10_P0.8mm; Datasheet: https://www.st.com/resource/en/datasheet/stm32h725vg.pdf; Description_: STMicroelectronics Arm Cortex-M7 MCU, 1024KB flash, 564KB RAM, 550 MHz, 1.62-3.6V, 77 GPIO, TFBGA100
pins: A1 PE6, A2 PE5, A3 PE2, A4 PB8, A5 BOOT0, A6 PB5, A7 PD6, A8 PD3, A9 PD2, A10 PC12, B1 PC14, B2 PC15, B3 PE3, B4 PE0, B5 PB7, B6 PB3(JTDO, B7 PD4, B8 PD1, B9 PC11, B10 PC10, C1 VSS, C2 VBAT, C3 PE4, C4 PE1, C5 PB4(NJTRST), C6 PD7, C7 PD0, C8 PA15(JTDI), C9 PA14(JTCK, C10 PA13(JTMS, D1 VSSSMPS, D2 VLXSMPS, D3 PDR_ON, D4 PB6, D5 VSS, D6 VDD, D7 PD5, D8 VCAP, D9 PA12, D10 PA11, E1 VDDSMPS, E2 VFBSMPS, E3 PB9, E4 PC13, E5 VDD, E6 VDDLDO, E7 VSS, E8 VDD33USB, E9 PA9, E10 PA10, F1 PC1, F2 NRST, F3 PC0, F4 PC2_C, F5 VSS, F6 VDD, F7 VDDLDO, F8 PC6, F9 PC9, F10 PA8, G1 PH0, G2 PH1, G3 PA0, G4 PC3_C, G5 PA3, G6 VCAP, G7 PD14, G8 PD15, G9 PC7, G10 PC8, H1 VDDA, H2 VSSA, H3 PA2, H4 PC4, H5 PE7, H6 PE10, H7 PD11, H8 PD9, H9 PD12, H10 PD13, J1 VREF+, J2 PA1, J3 PA6, J4 PC5, J5 PB2, J6 PE8, J7 PB11, J8 PB13, J9 PD8, J10 PD10, K1 PA4, K2 PA5, K3 PA7, K4 PB0, K5 PB1, K6 PE9, K7 PB10, K8 PB12, K9 PB14, K10 PB15

## STM32H725VGTx
designator *  value STM32H725VGTx  Reference: U
STMicroelectronics Arm Cortex-M7 MCU, 1024KB flash, 564KB RAM, 550 MHz, 1.71-3.6V, 69 GPIO, LQFP100; ki_keywords: Arm Cortex-M7 STM32H7 STM32H725/735; ki_fp_filters: LQFP*14x14mm*P0.5mm*; Footprint: Package_QFP:LQFP-100_14x14mm_P0.5mm; Datasheet: https://www.st.com/resource/en/datasheet/stm32h725vg.pdf; Description_: STMicroelectronics Arm Cortex-M7 MCU, 1024KB flash, 564KB RAM, 550 MHz, 1.71-3.6V, 69 GPIO, LQFP100
pins: 1 PE2, 2 PE4, 3 PE5, 4 VDD, 5 VBAT, 6 PC13, 7 PC14, 8 PC15, 9 VSSSMPS, 10 VLXSMPS, 11 VDDSMPS, 12 VFBSMPS, 13 PH0, 14 PH1, 15 NRST, 16 PC0, 17 PC1, 18 PC2_C, 19 PC3_C, 20 VDD, 21 VSS, 22 VSSA, 23 VREF+, 24 VDDA, 25 PA0, 26 PA1, 27 PA2, 28 PA3, 29 VSS, 30 VDD, 31 PA4, 32 PA5, 33 PA6, 34 PA7, 35 PC4, 36 PC5, 37 PB0, 38 PB1, 39 PB2, 40 PE7, 41 PE8, 42 PB10, 43 PB11, 44 VCAP, 45 VSS, 46 VDDLDO, 47 VDD, 48 PB12, 49 PB13, 50 PB14, 51 PB15, 52 PD8, 53 PD9, 54 PD10, 55 PD11, 56 PD12, 57 PD13, 58 VSS, 59 VDD, 60 PD14, 61 PD15, 62 PC6, 63 PC7, 64 PC8, 65 PC9, 66 PA8, 67 PA9, 68 PA10, 69 PA11, 70 PA12, 71 PA13(JTMS, 72 VCAP, 73 VSS, 74 VDDLDO, 75 VDD, 76 VDD33USB, 77 PA14(JTCK, 78 PA15(JTDI), 79 PC10, 80 PC11, 81 PC12, 82 PD0, 83 PD1, 84 PD2, 85 PD3, 86 PD4, 87 PD5, 88 VDD, 89 PB3(JTDO, 90 PB4(NJTRST), 91 PB5, 92 PB6, 93 PB7, 94 BOOT0, 95 PB8, 96 PB9, 97 VCAP, 98 VSS, 99 VDDLDO, 100 VDD

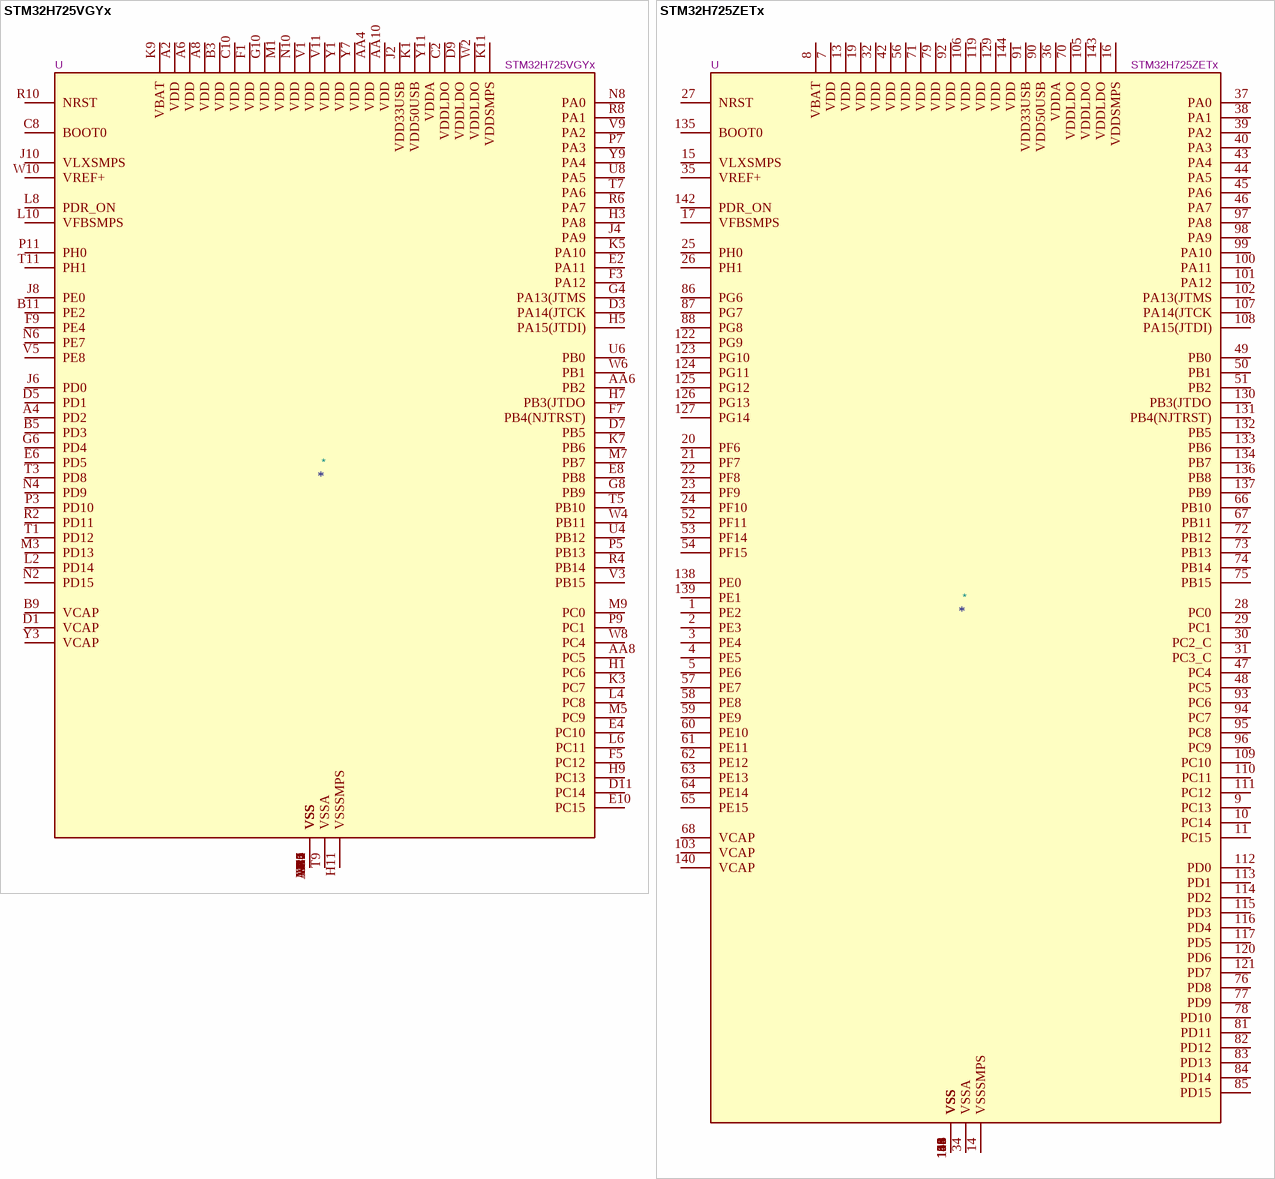
[diagram p46: symbols STM32H725VGYx to STM32H725ZETx]

## STM32H725VGYx
designator *  value STM32H725VGYx  Reference: U
STMicroelectronics Arm Cortex-M7 MCU, 1024KB flash, 564KB RAM, 550 MHz, 1.62-3.6V, 67 GPIO, WLCSP115; ki_keywords: Arm Cortex-M7 STM32H7 STM32H725/735; ki_fp_filters: ST*WLCSP*3.73x4.15mm*Layout11x21*P0.35mm*Stagger*; Footprint: Package_CSP:ST_WLCSP-115_3.73x4.15mm_Layout11x21_P0.35mm_Stagger; Datasheet: https://www.st.com/resource/en/datasheet/stm32h725vg.pdf; Description_: STMicroelectronics Arm Cortex-M7 MCU, 1024KB flash, 564KB RAM, 550 MHz, 1.62-3.6V, 67 GPIO, WLCSP115
pins: A2 VDD, A4 PD2, A6 VDD, A8 VDD, A10 VSS, AA2 VSS, AA4 VDD, AA6 PB2, AA8 PC5, AA10 VDD, B1 VSS, B3 VDD, B5 PD3, B7 VSS, B9 VCAP, B11 PE2, C2 VDDLDO, C4 VSS, C6 VSS, C8 BOOT0, C10 VDD, D1 VCAP, D3 PA14(JTCK, D5 PD1, D7 PB5, D9 VDDLDO, D11 PC14, E2 PA11, E4 PC10, E6 PD5, E8 PB8, E10 PC15, F1 VDD, F3 PA12, F5 PC12, F7 PB4(NJTRST), F9 PE4, F11 VSS, G2 VSS, G4 PA13(JTMS, G6 PD4, G8 PB9, G10 VDD, H1 PC6, H3 PA8, H5 PA15(JTDI), H7 PB3(JTDO, H9 PC13, H11 VSSSMPS, J2 VDD33USB, J4 PA9, J6 PD0, J8 PE0, J10 VLXSMPS, K1 VDD50USB, K3 PC7, K5 PA10, K7 PB6, K9 VBAT, K11 VDDSMPS, L2 PD14, L4 PC8, L6 PC11, L8 PDR_ON, L10 VFBSMPS, M1 VDD, M3 PD13, M5 PC9, M7 PB7, M9 PC0, M11 VSS, N2 PD15, N4 PD9, N6 PE7, N8 PA0, N10 VDD, P1 VSS, P3 PD10, P5 PB13, P7 PA3, P9 PC1, P11 PH0, R2 PD11, R4 PB14, R6 PA7, R8 PA1, R10 NRST, T1 PD12, T3 PD8, T5 PB10, T7 PA6, T9 VSSA, T11 PH1, U2 VSS, U4 PB12, U6 PB0, U8 PA5, U10 VSS, V1 VDD, V3 PB15, V5 PE8, V7 VSS, V9 PA2, V11 VDD, W2 VDDLDO, W4 PB11, W6 PB1, W8 PC4, W10 VREF+, Y1 VDD, Y3 VCAP, Y5 VSS, Y7 VDD, Y9 PA4, Y11 VDDA

## STM32H725ZETx
designator *  value STM32H725ZETx  Reference: U
STMicroelectronics Arm Cortex-M7 MCU, 512KB flash, 564KB RAM, 550 MHz, 1.62-3.6V, 99 GPIO, LQFP144; ki_keywords: Arm Cortex-M7 STM32H7 STM32H725/735; ki_fp_filters: LQFP*20x20mm*P0.5mm*; Footprint: Package_QFP:LQFP-144_20x20mm_P0.5mm; Datasheet: https://www.st.com/resource/en/datasheet/stm32h725ze.pdf; Description_: STMicroelectronics Arm Cortex-M7 MCU, 512KB flash, 564KB RAM, 550 MHz, 1.62-3.6V, 99 GPIO, LQFP144
pins: 1 PE2, 2 PE3, 3 PE4, 4 PE5, 5 PE6, 6 VSS, 7 VDD, 8 VBAT, 9 PC13, 10 PC14, 11 PC15, 12 VSS, 13 VDD, 14 VSSSMPS, 15 VLXSMPS, 16 VDDSMPS, 17 VFBSMPS, 18 VSS, 19 VDD, 20 PF6, 21 PF7, 22 PF8, 23 PF9, 24 PF10, 25 PH0, 26 PH1, 27 NRST, 28 PC0, 29 PC1, 30 PC2_C, 31 PC3_C, 32 VDD, 33 VSS, 34 VSSA, 35 VREF+, 36 VDDA, 37 PA0, 38 PA1, 39 PA2, 40 PA3, 41 VSS, 42 VDD, 43 PA4, 44 PA5, 45 PA6, 46 PA7, 47 PC4, 48 PC5, 49 PB0, 50 PB1, 51 PB2, 52 PF11, 53 PF14, 54 PF15, 55 VSS, 56 VDD, 57 PE7, 58 PE8, 59 PE9, 60 PE10, 61 PE11, 62 PE12, 63 PE13, 64 PE14, 65 PE15, 66 PB10, 67 PB11, 68 VCAP, 69 VSS, 70 VDDLDO, 71 VDD, 72 PB12, 73 PB13, 74 PB14, 75 PB15, 76 PD8, 77 PD9, 78 PD10, 79 VDD, 80 VSS, 81 PD11, 82 PD12, 83 PD13, 84 PD14, 85 PD15, 86 PG6, 87 PG7, 88 PG8, 89 VSS, 90 VDD50USB, 91 VDD33USB, 92 VDD, 93 PC6, 94 PC7, 95 PC8, 96 PC9, 97 PA8, 98 PA9, 99 PA10, 100 PA11, 101 PA12, 102 PA13(JTMS, 103 VCAP, 104 VSS, 105 VDDLDO, 106 VDD, 107 PA14(JTCK, 108 PA15(JTDI), 109 PC10, 110 PC11, 111 PC12, 112 PD0, 113 PD1, 114 PD2, 115 PD3, 116 PD4, 117 PD5, 118 VSS, 119 VDD, 120 PD6, 121 PD7, 122 PG9, 123 PG10, 124 PG11, 125 PG12, 126 PG13, 127 PG14, 128 VSS, 129 VDD, 130 PB3(JTDO, 131 PB4(NJTRST), 132 PB5, 133 PB6, 134 PB7, 135 BOOT0, 136 PB8, 137 PB9, 138 PE0, 139 PE1, 140 VCAP, 141 VSS, 142 PDR_ON, 143 VDDLDO, 144 VDD

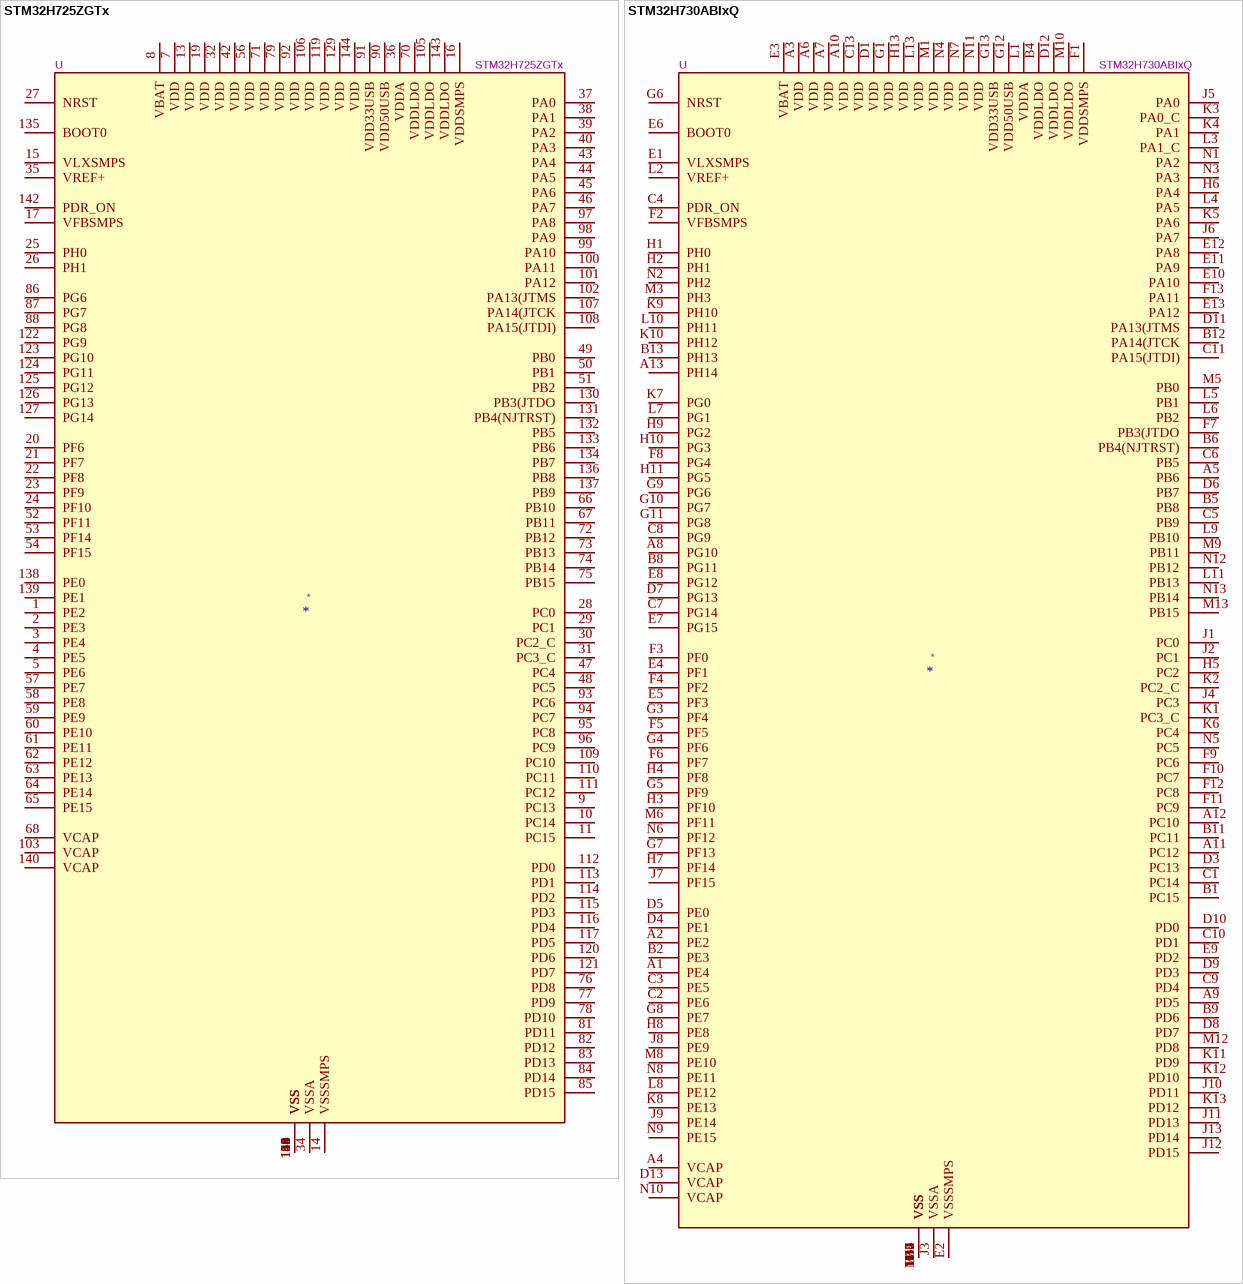
[diagram p47: symbols STM32H725ZGTx to STM32H730ABIxQ]

## STM32H725ZGTx
designator *  value STM32H725ZGTx  Reference: U
STMicroelectronics Arm Cortex-M7 MCU, 1024KB flash, 564KB RAM, 550 MHz, 1.62-3.6V, 99 GPIO, LQFP144; ki_keywords: Arm Cortex-M7 STM32H7 STM32H725/735; ki_fp_filters: LQFP*20x20mm*P0.5mm*; Footprint: Package_QFP:LQFP-144_20x20mm_P0.5mm; Datasheet: https://www.st.com/resource/en/datasheet/stm32h725zg.pdf; Description_: STMicroelectronics Arm Cortex-M7 MCU, 1024KB flash, 564KB RAM, 550 MHz, 1.62-3.6V, 99 GPIO, LQFP144
pins: 1 PE2, 2 PE3, 3 PE4, 4 PE5, 5 PE6, 6 VSS, 7 VDD, 8 VBAT, 9 PC13, 10 PC14, 11 PC15, 12 VSS, 13 VDD, 14 VSSSMPS, 15 VLXSMPS, 16 VDDSMPS, 17 VFBSMPS, 18 VSS, 19 VDD, 20 PF6, 21 PF7, 22 PF8, 23 PF9, 24 PF10, 25 PH0, 26 PH1, 27 NRST, 28 PC0, 29 PC1, 30 PC2_C, 31 PC3_C, 32 VDD, 33 VSS, 34 VSSA, 35 VREF+, 36 VDDA, 37 PA0, 38 PA1, 39 PA2, 40 PA3, 41 VSS, 42 VDD, 43 PA4, 44 PA5, 45 PA6, 46 PA7, 47 PC4, 48 PC5, 49 PB0, 50 PB1, 51 PB2, 52 PF11, 53 PF14, 54 PF15, 55 VSS, 56 VDD, 57 PE7, 58 PE8, 59 PE9, 60 PE10, 61 PE11, 62 PE12, 63 PE13, 64 PE14, 65 PE15, 66 PB10, 67 PB11, 68 VCAP, 69 VSS, 70 VDDLDO, 71 VDD, 72 PB12, 73 PB13, 74 PB14, 75 PB15, 76 PD8, 77 PD9, 78 PD10, 79 VDD, 80 VSS, 81 PD11, 82 PD12, 83 PD13, 84 PD14, 85 PD15, 86 PG6, 87 PG7, 88 PG8, 89 VSS, 90 VDD50USB, 91 VDD33USB, 92 VDD, 93 PC6, 94 PC7, 95 PC8, 96 PC9, 97 PA8, 98 PA9, 99 PA10, 100 PA11, 101 PA12, 102 PA13(JTMS, 103 VCAP, 104 VSS, 105 VDDLDO, 106 VDD, 107 PA14(JTCK, 108 PA15(JTDI), 109 PC10, 110 PC11, 111 PC12, 112 PD0, 113 PD1, 114 PD2, 115 PD3, 116 PD4, 117 PD5, 118 VSS, 119 VDD, 120 PD6, 121 PD7, 122 PG9, 123 PG10, 124 PG11, 125 PG12, 126 PG13, 127 PG14, 128 VSS, 129 VDD, 130 PB3(JTDO, 131 PB4(NJTRST), 132 PB5, 133 PB6, 134 PB7, 135 BOOT0, 136 PB8, 137 PB9, 138 PE0, 139 PE1, 140 VCAP, 141 VSS, 142 PDR_ON, 143 VDDLDO, 144 VDD

## STM32H730ABIxQ
designator *  value STM32H730ABIxQ  Reference: U
STMicroelectronics Arm Cortex-M7 MCU, 128KB flash, 564KB RAM, 550 MHz, 1.62-3.6V, 125 GPIO, UFBGA169; ki_keywords: Arm Cortex-M7 STM32H7 STM32H730 Value line; ki_fp_filters: UFBGA*7x7mm*Layout13x13*P0.5mm*; Footprint: Package_BGA:UFBGA-169_7x7mm_Layout13x13_P0.5mm; Datasheet: https://www.st.com/resource/en/datasheet/stm32h730ab.pdf; Description_: STMicroelectronics Arm Cortex-M7 MCU, 128KB flash, 564KB RAM, 550 MHz, 1.62-3.6V, 125 GPIO, UFBGA169
pins: A1 PE4, A2 PE2, A3 VDD, A4 VCAP, A5 PB6, A6 VDD, A7 VDD, A8 PG10, A9 PD5, A10 VDD, A11 PC12, A12 PC10, A13 PH14, B1 PC15, B2 PE3, B3 VSS, B4 VDDLDO, B5 PB8, B6 PB4(NJTRST), B7 VSS, B8 PG11, B9 PD6, B10 VSS, B11 PC11, B12 PA14(JTCK, B13 PH13, C1 PC14, C2 PE6, C3 PE5, C4 PDR_ON, C5 PB9, C6 PB5, C7 PG14, C8 PG9, C9 PD4, C10 PD1, C11 PA15(JTDI), C12 VSS, C13 VDD, D1 VDD, D2 VSS, D3 PC13, D4 PE1, D5 PE0, D6 PB7, D7 PG13, D8 PD7, D9 PD3, D10 PD0, D11 PA13(JTMS, D12 VDDLDO, D13 VCAP, E1 VLXSMPS, E2 VSSSMPS, E3 VBAT, E4 PF1, E5 PF3, E6 BOOT0, E7 PG15, E8 PG12, E9 PD2, E10 PA10, E11 PA9, E12 PA8, E13 PA12, F1 VDDSMPS, F2 VFBSMPS, F3 PF0, F4 PF2, F5 PF5, F6 PF7, F7 PB3(JTDO, F8 PG4, F9 PC6, F10 PC7, F11 PC9, F12 PC8, F13 PA11, G1 VDD, G2 VSS, G3 PF4, G4 PF6, G5 PF9, G6 NRST, G7 PF13, G8 PE7, G9 PG6, G10 PG7, G11 PG8, G12 VDD50USB, G13 VDD33USB, H1 PH0, H2 PH1, H3 PF10, H4 PF8, H5 PC2, H6 PA4, H7 PF14, H8 PE8, H9 PG2, H10 PG3, H11 PG5, H12 VSS, H13 VDD, J1 PC0, J2 PC1, J3 VSSA, J4 PC3, J5 PA0, J6 PA7, J7 PF15, J8 PE9, J9 PE14, J10 PD11, J11 PD13, J12 PD15, J13 PD14, K1 PC3_C, K2 PC2_C, K3 PA0_C, K4 PA1, K5 PA6, K6 PC4, K7 PG0, K8 PE13, K9 PH10, K10 PH12, K11 PD9, K12 PD10, K13 PD12, L1 VDDA, L2 VREF+, L3 PA1_C, L4 PA5, L5 PB1, L6 PB2, L7 PG1, L8 PE12, L9 PB10, L10 PH11, L11 PB13, L12 VSS, L13 VDD, M1 VDD, M2 VSS, M3 PH3, M4 VSS, M5 PB0, M6 PF11, M7 VSS, M8 PE10, M9 PB11, M10 VDDLDO, M11 VSS, M12 PD8, M13 PB15, N1 PA2, N2 PH2, N3 PA3, N4 VDD, N5 PC5, N6 PF12, N7 VDD, N8 PE11, N9 PE15, N10 VCAP, N11 VDD, N12 PB12, N13 PB14

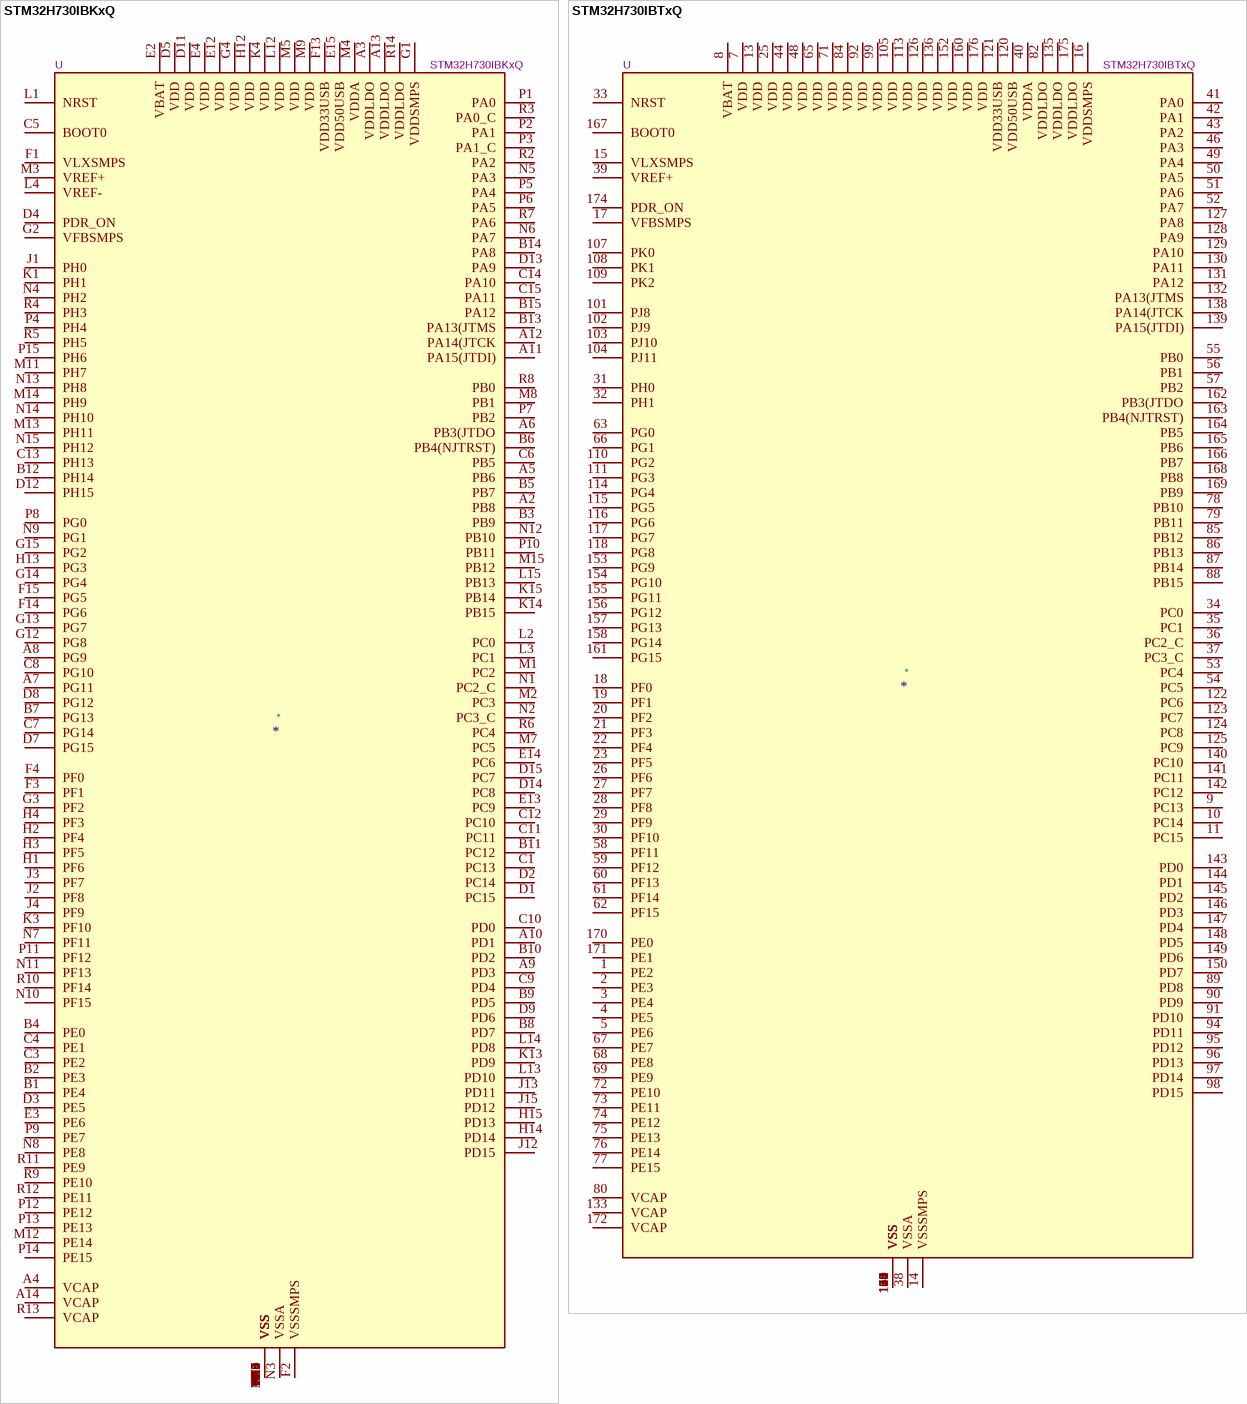
[diagram p48: symbols STM32H730IBKxQ to STM32H730IBTxQ]

## STM32H730IBKxQ
designator *  value STM32H730IBKxQ  Reference: U
STMicroelectronics Arm Cortex-M7 MCU, 128KB flash, 564KB RAM, 550 MHz, 1.62-3.6V, 132 GPIO, UFBGA176; ki_keywords: Arm Cortex-M7 STM32H7 STM32H730 Value line; ki_fp_filters: UFBGA*10x10mm*Layout15x15*P0.65mm*; Footprint: Package_BGA:UFBGA-201_10x10mm_Layout15x15_P0.65mm; Datasheet: https://www.st.com/resource/en/datasheet/stm32h730ib.pdf; Description_: STMicroelectronics Arm Cortex-M7 MCU, 128KB flash, 564KB RAM, 550 MHz, 1.62-3.6V, 132 GPIO, UFBGA176
pins: A1 VSS, A2 PB8, A3 VDDLDO, A4 VCAP, A5 PB6, A6 PB3(JTDO, A7 PG11, A8 PG9, A9 PD3, A10 PD1, A11 PA15(JTDI), A12 PA14(JTCK, A13 VDDLDO, A14 VCAP, A15 VSS, B1 PE4, B2 PE3, B3 PB9, B4 PE0, B5 PB7, B6 PB4(NJTRST), B7 PG13, B8 PD7, B9 PD5, B10 PD2, B11 PC12, B12 PH14, B13 PA13(JTMS, B14 PA8, B15 PA12, C1 PC13, C2 VSS, C3 PE2, C4 PE1, C5 BOOT0, C6 PB5, C7 PG14, C8 PG10, C9 PD4, C10 PD0, C11 PC11, C12 PC10, C13 PH13, C14 PA10, C15 PA11, D1 PC15, D2 PC14, D3 PE5, D4 PDR_ON, D5 VDD, D6 VSS, D7 PG15, D8 PG12, D9 PD6, D10 VSS, D11 VDD, D12 PH15, D13 PA9, D14 PC8, D15 PC7, E1 VSS, E2 VBAT, E3 PE6, E4 VDD, E12 VDD, E13 PC9, E14 PC6, E15 VDD50USB, F1 VLXSMPS, F2 VSSSMPS, F3 PF1, F4 PF0, F6 VSS, F7 VSS, F8 VSS, F9 VSS, F10 VSS, F12 VSS, F13 VDD33USB, F14 PG6, F15 PG5, G1 VDDSMPS, G2 VFBSMPS, G3 PF2, G4 VDD, G6 VSS, G7 VSS, G8 VSS, G9 VSS, G10 VSS, G12 PG8, G13 PG7, G14 PG4, G15 PG2, H1 PF6, H2 PF4, H3 PF5, H4 PF3, H6 VSS, H7 VSS, H8 VSS, H9 VSS, H10 VSS, H12 VDD, H13 PG3, H14 PD14, H15 PD13, J1 PH0, J2 PF8, J3 PF7, J4 PF9, J6 VSS, J7 VSS, J8 VSS, J9 VSS, J10 VSS, J12 PD15, J13 PD11, J14 VSS, J15 PD12, K1 PH1, K2 VSS, K3 PF10, K4 VDD, K6 VSS, K7 VSS, K8 VSS, K9 VSS, K10 VSS, K12 VSS, K13 PD9, K14 PB15, K15 PB14, L1 NRST, L2 PC0, L3 PC1, L4 VREF-, L12 VDD, L13 PD10, L14 PD8, L15 PB13, M1 PC2, M2 PC3, M3 VREF+, M4 VDDA, M5 VDD, M6 VSS, M7 PC5, M8 PB1, M9 VDD, M10 VSS, M11 PH7, M12 PE14, M13 PH11, M14 PH9, M15 PB12, N1 PC2_C, N2 PC3_C, N3 VSSA, N4 PH2, N5 PA3, N6 PA7, N7 PF11, N8 PE8, N9 PG1, N10 PF15, N11 PF13, N12 PB10, N13 PH8, N14 PH10, N15 PH12, P1 PA0, P2 PA1, P3 PA1_C, P4 PH4, P5 PA4, P6 PA5, P7 PB2, P8 PG0, P9 PE7, P10 PB11, P11 PF12, P12 PE12, P13 PE13, P14 PE15, P15 PH6, R1 VSS, R2 PA2, R3 PA0_C, R4 PH3, R5 PH5, R6 PC4, R7 PA6, R8 PB0, R9 PE10, R10 PF14, R11 PE9, R12 PE11, R13 VCAP, R14 VDDLDO, R15 VSS

## STM32H730IBTxQ
designator *  value STM32H730IBTxQ  Reference: U
STMicroelectronics Arm Cortex-M7 MCU, 128KB flash, 564KB RAM, 550 MHz, 1.62-3.6V, 121 GPIO, LQFP176; ki_keywords: Arm Cortex-M7 STM32H7 STM32H730 Value line; ki_fp_filters: LQFP*24x24mm*P0.5mm*; Footprint: Package_QFP:LQFP-176_24x24mm_P0.5mm; Datasheet: https://www.st.com/resource/en/datasheet/stm32h730ib.pdf; Description_: STMicroelectronics Arm Cortex-M7 MCU, 128KB flash, 564KB RAM, 550 MHz, 1.62-3.6V, 121 GPIO, LQFP176
pins: 1 PE2, 2 PE3, 3 PE4, 4 PE5, 5 PE6, 6 VSS, 7 VDD, 8 VBAT, 9 PC13, 10 PC14, 11 PC15, 12 VSS, 13 VDD, 14 VSSSMPS, 15 VLXSMPS, 16 VDDSMPS, 17 VFBSMPS, 18 PF0, 19 PF1, 20 PF2, 21 PF3, 22 PF4, 23 PF5, 24 VSS, 25 VDD, 26 PF6, 27 PF7, 28 PF8, 29 PF9, 30 PF10, 31 PH0, 32 PH1, 33 NRST, 34 PC0, 35 PC1, 36 PC2_C, 37 PC3_C, 38 VSSA, 39 VREF+, 40 VDDA, 41 PA0, 42 PA1, 43 PA2, 44 VDD, 45 VSS, 46 PA3, 47 VSS, 48 VDD, 49 PA4, 50 PA5, 51 PA6, 52 PA7, 53 PC4, 54 PC5, 55 PB0, 56 PB1, 57 PB2, 58 PF11, 59 PF12, 60 PF13, 61 PF14, 62 PF15, 63 PG0, 64 VSS, 65 VDD, 66 PG1, 67 PE7, 68 PE8, 69 PE9, 70 VSS, 71 VDD, 72 PE10, 73 PE11, 74 PE12, 75 PE13, 76 PE14, 77 PE15, 78 PB10, 79 PB11, 80 VCAP, 81 VSS, 82 VDDLDO, 83 VSS, 84 VDD, 85 PB12, 86 PB13, 87 PB14, 88 PB15, 89 PD8, 90 PD9, 91 PD10, 92 VDD, 93 VSS, 94 PD11, 95 PD12, 96 PD13, 97 PD14, 98 PD15, 99 VDD, 100 VSS, 101 PJ8, 102 PJ9, 103 PJ10, 104 PJ11, 105 VDD, 106 VSS, 107 PK0, 108 PK1, 109 PK2, 110 PG2, 111 PG3, 112 VSS, 113 VDD, 114 PG4, 115 PG5, 116 PG6, 117 PG7, 118 PG8, 119 VSS, 120 VDD50USB, 121 VDD33USB, 122 PC6, 123 PC7, 124 PC8, 125 PC9, 126 VDD, 127 PA8, 128 PA9, 129 PA10, 130 PA11, 131 PA12, 132 PA13(JTMS, 133 VCAP, 134 VSS, 135 VDDLDO, 136 VDD, 137 VSS, 138 PA14(JTCK, 139 PA15(JTDI), 140 PC10, 141 PC11, 142 PC12, 143 PD0, 144 PD1, 145 PD2, 146 PD3, 147 PD4, 148 PD5, 149 PD6, 150 PD7, 151 VSS, 152 VDD, 153 PG9, 154 PG10, 155 PG11, 156 PG12, 157 PG13, 158 PG14, 159 VSS, 160 VDD, 161 PG15, 162 PB3(JTDO, 163 PB4(NJTRST), 164 PB5, 165 PB6, 166 PB7, 167 BOOT0, 168 PB8, 169 PB9, 170 PE0, 171 PE1, 172 VCAP, 173 VSS, 174 PDR_ON, 175 VDDLDO, 176 VDD

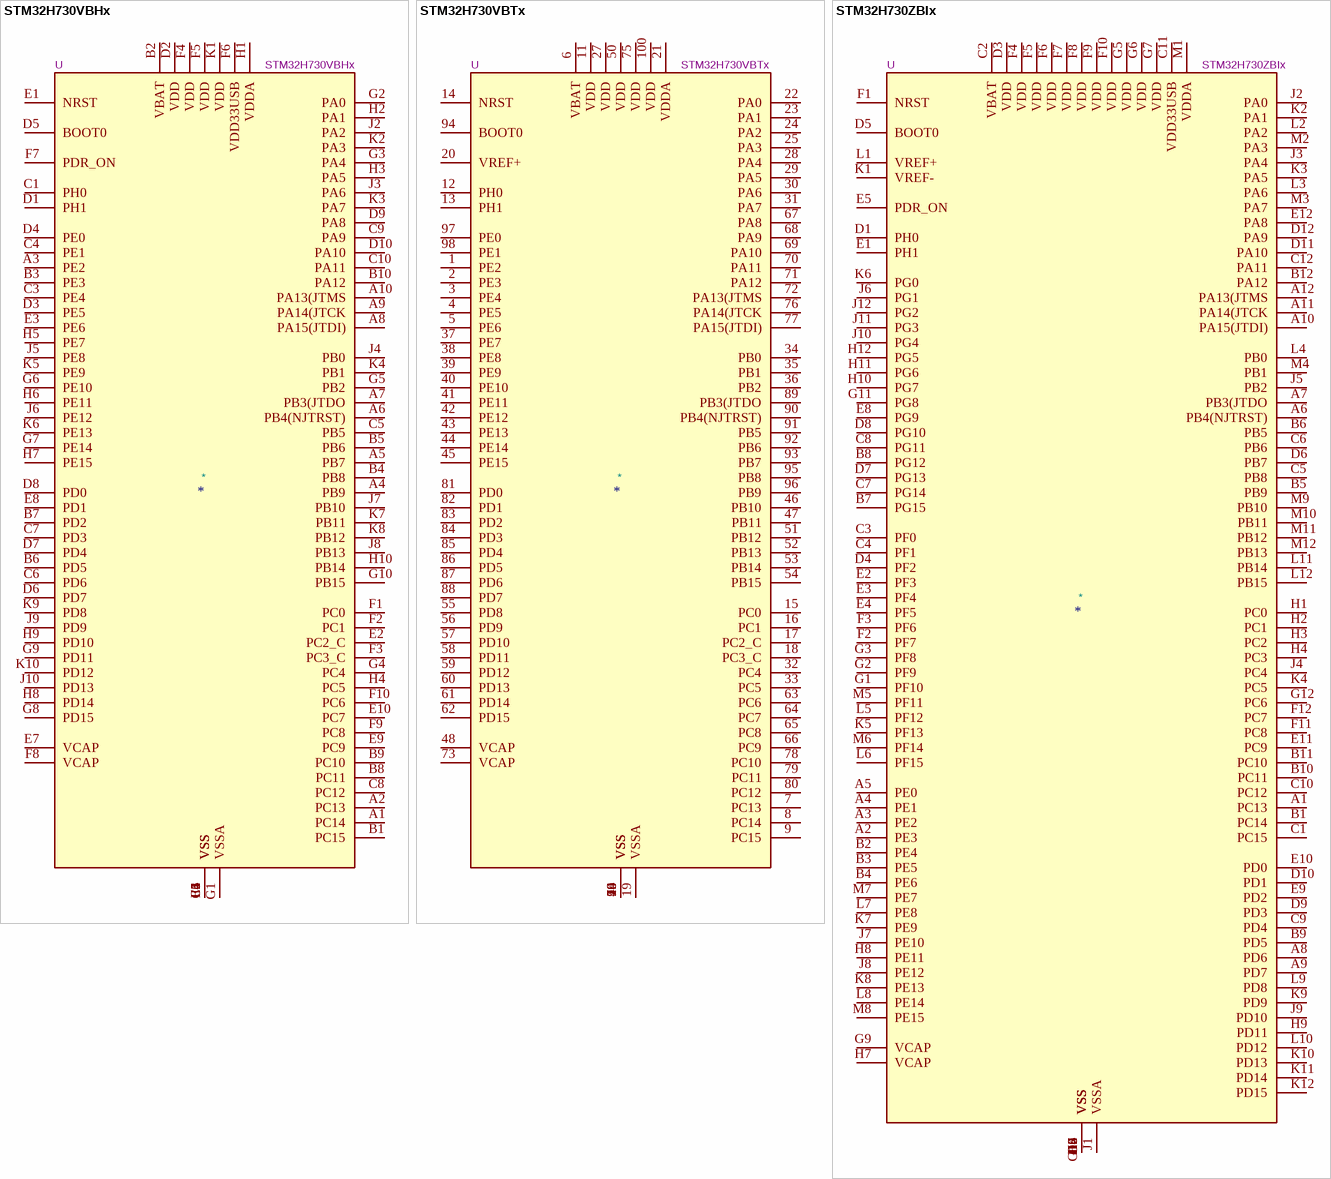
[diagram p49: symbols STM32H730VBHx to STM32H730ZBIx]

## STM32H730VBHx
designator *  value STM32H730VBHx  Reference: U
STMicroelectronics Arm Cortex-M7 MCU, 128KB flash, 564KB RAM, 550 MHz, 1.62-3.6V, 82 GPIO, TFBGA100; ki_keywords: Arm Cortex-M7 STM32H7 STM32H730 Value line; ki_fp_filters: TFBGA*8x8mm*Layout10x10*P0.8mm*; Footprint: Package_BGA:TFBGA-100_8x8mm_Layout10x10_P0.8mm; Datasheet: https://www.st.com/resource/en/datasheet/stm32h730vb.pdf; Description_: STMicroelectronics Arm Cortex-M7 MCU, 128KB flash, 564KB RAM, 550 MHz, 1.62-3.6V, 82 GPIO, TFBGA100
pins: A1 PC14, A2 PC13, A3 PE2, A4 PB9, A5 PB7, A6 PB4(NJTRST), A7 PB3(JTDO, A8 PA15(JTDI), A9 PA14(JTCK, A10 PA13(JTMS, B1 PC15, B2 VBAT, B3 PE3, B4 PB8, B5 PB6, B6 PD5, B7 PD2, B8 PC11, B9 PC10, B10 PA12, C1 PH0, C2 VSS, C3 PE4, C4 PE1, C5 PB5, C6 PD6, C7 PD3, C8 PC12, C9 PA9, C10 PA11, D1 PH1, D2 VDD, D3 PE5, D4 PE0, D5 BOOT0, D6 PD7, D7 PD4, D8 PD0, D9 PA8, D10 PA10, E1 NRST, E2 PC2_C, E3 PE6, E4 VSS, E5 VSS, E6 VSS, E7 VCAP, E8 PD1, E9 PC9, E10 PC7, F1 PC0, F2 PC1, F3 PC3_C, F4 VDD, F5 VDD, F6 VDD33USB, F7 PDR_ON, F8 VCAP, F9 PC8, F10 PC6, G1 VSSA, G2 PA0, G3 PA4, G4 PC4, G5 PB2, G6 PE10, G7 PE14, G8 PD15, G9 PD11, G10 PB15, H1 VDDA, H2 PA1, H3 PA5, H4 PC5, H5 PE7, H6 PE11, H7 PE15, H8 PD14, H9 PD10, H10 PB14, J1 VSS, J2 PA2, J3 PA6, J4 PB0, J5 PE8, J6 PE12, J7 PB10, J8 PB13, J9 PD9, J10 PD13, K1 VDD, K2 PA3, K3 PA7, K4 PB1, K5 PE9, K6 PE13, K7 PB11, K8 PB12, K9 PD8, K10 PD12

## STM32H730VBTx
designator *  value STM32H730VBTx  Reference: U
STMicroelectronics Arm Cortex-M7 MCU, 128KB flash, 564KB RAM, 550 MHz, 1.71-3.6V, 82 GPIO, LQFP100; ki_keywords: Arm Cortex-M7 STM32H7 STM32H730 Value line; ki_fp_filters: LQFP*14x14mm*P0.5mm*; Footprint: Package_QFP:LQFP-100_14x14mm_P0.5mm; Datasheet: https://www.st.com/resource/en/datasheet/stm32h730vb.pdf; Description_: STMicroelectronics Arm Cortex-M7 MCU, 128KB flash, 564KB RAM, 550 MHz, 1.71-3.6V, 82 GPIO, LQFP100
pins: 1 PE2, 2 PE3, 3 PE4, 4 PE5, 5 PE6, 6 VBAT, 7 PC13, 8 PC14, 9 PC15, 10 VSS, 11 VDD, 12 PH0, 13 PH1, 14 NRST, 15 PC0, 16 PC1, 17 PC2_C, 18 PC3_C, 19 VSSA, 20 VREF+, 21 VDDA, 22 PA0, 23 PA1, 24 PA2, 25 PA3, 26 VSS, 27 VDD, 28 PA4, 29 PA5, 30 PA6, 31 PA7, 32 PC4, 33 PC5, 34 PB0, 35 PB1, 36 PB2, 37 PE7, 38 PE8, 39 PE9, 40 PE10, 41 PE11, 42 PE12, 43 PE13, 44 PE14, 45 PE15, 46 PB10, 47 PB11, 48 VCAP, 49 VSS, 50 VDD, 51 PB12, 52 PB13, 53 PB14, 54 PB15, 55 PD8, 56 PD9, 57 PD10, 58 PD11, 59 PD12, 60 PD13, 61 PD14, 62 PD15, 63 PC6, 64 PC7, 65 PC8, 66 PC9, 67 PA8, 68 PA9, 69 PA10, 70 PA11, 71 PA12, 72 PA13(JTMS, 73 VCAP, 74 VSS, 75 VDD, 76 PA14(JTCK, 77 PA15(JTDI), 78 PC10, 79 PC11, 80 PC12, 81 PD0, 82 PD1, 83 PD2, 84 PD3, 85 PD4, 86 PD5, 87 PD6, 88 PD7, 89 PB3(JTDO, 90 PB4(NJTRST), 91 PB5, 92 PB6, 93 PB7, 94 BOOT0, 95 PB8, 96 PB9, 97 PE0, 98 PE1, 99 VSS, 100 VDD

## STM32H730ZBIx
designator *  value STM32H730ZBIx  Reference: U
STMicroelectronics Arm Cortex-M7 MCU, 128KB flash, 564KB RAM, 550 MHz, 1.62-3.6V, 114 GPIO, UFBGA144; ki_keywords: Arm Cortex-M7 STM32H7 STM32H730 Value line; ki_fp_filters: UFBGA*7x7mm*Layout12x12*P0.5mm*; Footprint: Package_BGA:UFBGA-144_7x7mm_Layout12x12_P0.5mm; Datasheet: https://www.st.com/resource/en/datasheet/stm32h730zb.pdf; Description_: STMicroelectronics Arm Cortex-M7 MCU, 128KB flash, 564KB RAM, 550 MHz, 1.62-3.6V, 114 GPIO, UFBGA144
pins: A1 PC13, A2 PE3, A3 PE2, A4 PE1, A5 PE0, A6 PB4(NJTRST), A7 PB3(JTDO, A8 PD6, A9 PD7, A10 PA15(JTDI), A11 PA14(JTCK, A12 PA13(JTMS, B1 PC14, B2 PE4, B3 PE5, B4 PE6, B5 PB9, B6 PB5, B7 PG15, B8 PG12, B9 PD5, B10 PC11, B11 PC10, B12 PA12, C1 PC15, C2 VBAT, C3 PF0, C4 PF1, C5 PB8, C6 PB6, C7 PG14, C8 PG11, C9 PD4, C10 PC12, C11 VDD33USB, C12 PA11, D1 PH0, D2 VSS, D3 VDD, D4 PF2, D5 BOOT0, D6 PB7, D7 PG13, D8 PG10, D9 PD3, D10 PD1, D11 PA10, D12 PA9, E1 PH1, E2 PF3, E3 PF4, E4 PF5, E5 PDR_ON, E6 VSS, E7 VSS, E8 PG9, E9 PD2, E10 PD0, E11 PC9, E12 PA8, F1 NRST, F2 PF7, F3 PF6, F4 VDD, F5 VDD, F6 VDD, F7 VDD, F8 VDD, F9 VDD, F10 VDD, F11 PC8, F12 PC7, G1 PF10, G2 PF9, G3 PF8, G4 VSS, G5 VDD, G6 VDD, G7 VDD, G8 VSS, G9 VCAP, G10 VSS, G11 PG8, G12 PC6, H1 PC0, H2 PC1, H3 PC2, H4 PC3, H5 VSS, H6 VSS, H7 VCAP, H8 PE11, H9 PD11, H10 PG7, H11 PG6, H12 PG5, J1 VSSA, J2 PA0, J3 PA4, J4 PC4, J5 PB2, J6 PG1, J7 PE10, J8 PE12, J9 PD10, J10 PG4, J11 PG3, J12 PG2, K1 VREF-, K2 PA1, K3 PA5, K4 PC5, K5 PF13, K6 PG0, K7 PE9, K8 PE13, K9 PD9, K10 PD13, K11 PD14, K12 PD15, L1 VREF+, L2 PA2, L3 PA6, L4 PB0, L5 PF12, L6 PF15, L7 PE8, L8 PE14, L9 PD8, L10 PD12, L11 PB14, L12 PB15, M1 VDDA, M2 PA3, M3 PA7, M4 PB1, M5 PF11, M6 PF14, M7 PE7, M8 PE15, M9 PB10, M10 PB11, M11 PB12, M12 PB13

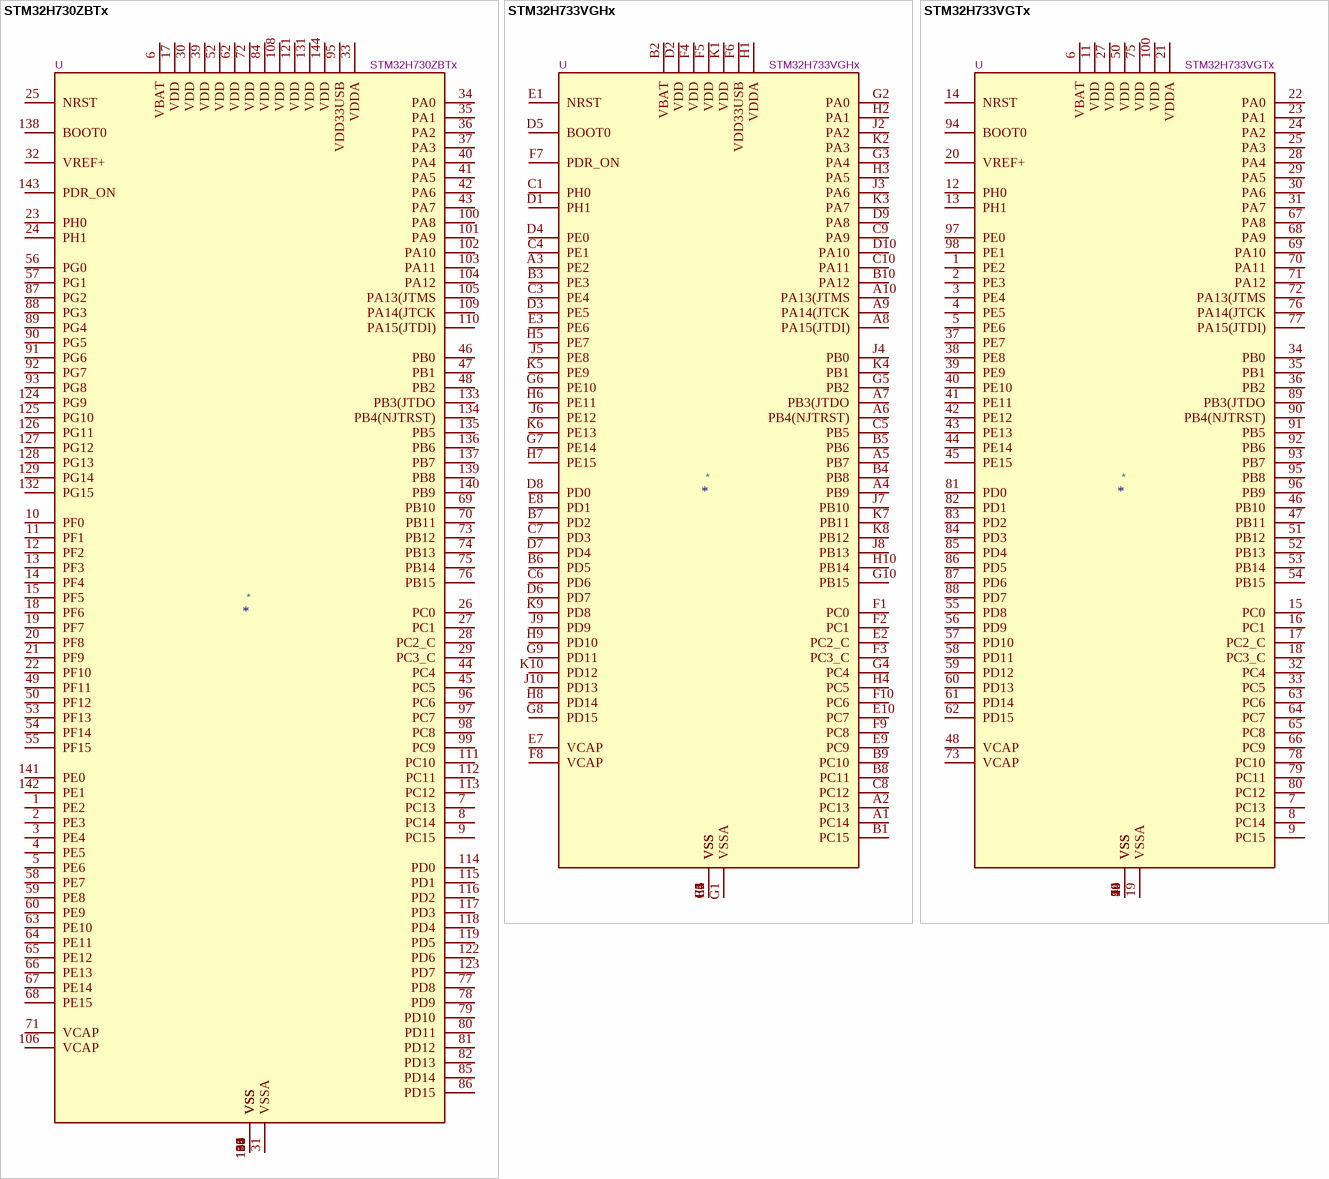
[diagram p50: symbols STM32H730ZBTx to STM32H733VGTx]

## STM32H730ZBTx
designator *  value STM32H730ZBTx  Reference: U
STMicroelectronics Arm Cortex-M7 MCU, 128KB flash, 564KB RAM, 550 MHz, 1.62-3.6V, 114 GPIO, LQFP144; ki_keywords: Arm Cortex-M7 STM32H7 STM32H730 Value line; ki_fp_filters: LQFP*20x20mm*P0.5mm*; Footprint: Package_QFP:LQFP-144_20x20mm_P0.5mm; Datasheet: https://www.st.com/resource/en/datasheet/stm32h730zb.pdf; Description_: STMicroelectronics Arm Cortex-M7 MCU, 128KB flash, 564KB RAM, 550 MHz, 1.62-3.6V, 114 GPIO, LQFP144
pins: 1 PE2, 2 PE3, 3 PE4, 4 PE5, 5 PE6, 6 VBAT, 7 PC13, 8 PC14, 9 PC15, 10 PF0, 11 PF1, 12 PF2, 13 PF3, 14 PF4, 15 PF5, 16 VSS, 17 VDD, 18 PF6, 19 PF7, 20 PF8, 21 PF9, 22 PF10, 23 PH0, 24 PH1, 25 NRST, 26 PC0, 27 PC1, 28 PC2_C, 29 PC3_C, 30 VDD, 31 VSSA, 32 VREF+, 33 VDDA, 34 PA0, 35 PA1, 36 PA2, 37 PA3, 38 VSS, 39 VDD, 40 PA4, 41 PA5, 42 PA6, 43 PA7, 44 PC4, 45 PC5, 46 PB0, 47 PB1, 48 PB2, 49 PF11, 50 PF12, 51 VSS, 52 VDD, 53 PF13, 54 PF14, 55 PF15, 56 PG0, 57 PG1, 58 PE7, 59 PE8, 60 PE9, 61 VSS, 62 VDD, 63 PE10, 64 PE11, 65 PE12, 66 PE13, 67 PE14, 68 PE15, 69 PB10, 70 PB11, 71 VCAP, 72 VDD, 73 PB12, 74 PB13, 75 PB14, 76 PB15, 77 PD8, 78 PD9, 79 PD10, 80 PD11, 81 PD12, 82 PD13, 83 VSS, 84 VDD, 85 PD14, 86 PD15, 87 PG2, 88 PG3, 89 PG4, 90 PG5, 91 PG6, 92 PG7, 93 PG8, 94 VSS, 95 VDD33USB, 96 PC6, 97 PC7, 98 PC8, 99 PC9, 100 PA8, 101 PA9, 102 PA10, 103 PA11, 104 PA12, 105 PA13(JTMS, 106 VCAP, 107 VSS, 108 VDD, 109 PA14(JTCK, 110 PA15(JTDI), 111 PC10, 112 PC11, 113 PC12, 114 PD0, 115 PD1, 116 PD2, 117 PD3, 118 PD4, 119 PD5, 120 VSS, 121 VDD, 122 PD6, 123 PD7, 124 PG9, 125 PG10, 126 PG11, 127 PG12, 128 PG13, 129 PG14, 130 VSS, 131 VDD, 132 PG15, 133 PB3(JTDO, 134 PB4(NJTRST), 135 PB5, 136 PB6, 137 PB7, 138 BOOT0, 139 PB8, 140 PB9, 141 PE0, 142 PE1, 143 PDR_ON, 144 VDD

## STM32H733VGHx
designator *  value STM32H733VGHx  Reference: U
STMicroelectronics Arm Cortex-M7 MCU, 1024KB flash, 564KB RAM, 550 MHz, 1.62-3.6V, 82 GPIO, TFBGA100; ki_keywords: Arm Cortex-M7 STM32H7 STM32H723/733; ki_fp_filters: TFBGA*8x8mm*Layout10x10*P0.8mm*; Footprint: Package_BGA:TFBGA-100_8x8mm_Layout10x10_P0.8mm; Datasheet: https://www.st.com/resource/en/datasheet/stm32h733vg.pdf; Description_: STMicroelectronics Arm Cortex-M7 MCU, 1024KB flash, 564KB RAM, 550 MHz, 1.62-3.6V, 82 GPIO, TFBGA100
pins: A1 PC14, A2 PC13, A3 PE2, A4 PB9, A5 PB7, A6 PB4(NJTRST), A7 PB3(JTDO, A8 PA15(JTDI), A9 PA14(JTCK, A10 PA13(JTMS, B1 PC15, B2 VBAT, B3 PE3, B4 PB8, B5 PB6, B6 PD5, B7 PD2, B8 PC11, B9 PC10, B10 PA12, C1 PH0, C2 VSS, C3 PE4, C4 PE1, C5 PB5, C6 PD6, C7 PD3, C8 PC12, C9 PA9, C10 PA11, D1 PH1, D2 VDD, D3 PE5, D4 PE0, D5 BOOT0, D6 PD7, D7 PD4, D8 PD0, D9 PA8, D10 PA10, E1 NRST, E2 PC2_C, E3 PE6, E4 VSS, E5 VSS, E6 VSS, E7 VCAP, E8 PD1, E9 PC9, E10 PC7, F1 PC0, F2 PC1, F3 PC3_C, F4 VDD, F5 VDD, F6 VDD33USB, F7 PDR_ON, F8 VCAP, F9 PC8, F10 PC6, G1 VSSA, G2 PA0, G3 PA4, G4 PC4, G5 PB2, G6 PE10, G7 PE14, G8 PD15, G9 PD11, G10 PB15, H1 VDDA, H2 PA1, H3 PA5, H4 PC5, H5 PE7, H6 PE11, H7 PE15, H8 PD14, H9 PD10, H10 PB14, J1 VSS, J2 PA2, J3 PA6, J4 PB0, J5 PE8, J6 PE12, J7 PB10, J8 PB13, J9 PD9, J10 PD13, K1 VDD, K2 PA3, K3 PA7, K4 PB1, K5 PE9, K6 PE13, K7 PB11, K8 PB12, K9 PD8, K10 PD12

## STM32H733VGTx
designator *  value STM32H733VGTx  Reference: U
STMicroelectronics Arm Cortex-M7 MCU, 1024KB flash, 564KB RAM, 550 MHz, 1.71-3.6V, 82 GPIO, LQFP100; ki_keywords: Arm Cortex-M7 STM32H7 STM32H723/733; ki_fp_filters: LQFP*14x14mm*P0.5mm*; Footprint: Package_QFP:LQFP-100_14x14mm_P0.5mm; Datasheet: https://www.st.com/resource/en/datasheet/stm32h733vg.pdf; Description_: STMicroelectronics Arm Cortex-M7 MCU, 1024KB flash, 564KB RAM, 550 MHz, 1.71-3.6V, 82 GPIO, LQFP100
pins: 1 PE2, 2 PE3, 3 PE4, 4 PE5, 5 PE6, 6 VBAT, 7 PC13, 8 PC14, 9 PC15, 10 VSS, 11 VDD, 12 PH0, 13 PH1, 14 NRST, 15 PC0, 16 PC1, 17 PC2_C, 18 PC3_C, 19 VSSA, 20 VREF+, 21 VDDA, 22 PA0, 23 PA1, 24 PA2, 25 PA3, 26 VSS, 27 VDD, 28 PA4, 29 PA5, 30 PA6, 31 PA7, 32 PC4, 33 PC5, 34 PB0, 35 PB1, 36 PB2, 37 PE7, 38 PE8, 39 PE9, 40 PE10, 41 PE11, 42 PE12, 43 PE13, 44 PE14, 45 PE15, 46 PB10, 47 PB11, 48 VCAP, 49 VSS, 50 VDD, 51 PB12, 52 PB13, 53 PB14, 54 PB15, 55 PD8, 56 PD9, 57 PD10, 58 PD11, 59 PD12, 60 PD13, 61 PD14, 62 PD15, 63 PC6, 64 PC7, 65 PC8, 66 PC9, 67 PA8, 68 PA9, 69 PA10, 70 PA11, 71 PA12, 72 PA13(JTMS, 73 VCAP, 74 VSS, 75 VDD, 76 PA14(JTCK, 77 PA15(JTDI), 78 PC10, 79 PC11, 80 PC12, 81 PD0, 82 PD1, 83 PD2, 84 PD3, 85 PD4, 86 PD5, 87 PD6, 88 PD7, 89 PB3(JTDO, 90 PB4(NJTRST), 91 PB5, 92 PB6, 93 PB7, 94 BOOT0, 95 PB8, 96 PB9, 97 PE0, 98 PE1, 99 VSS, 100 VDD

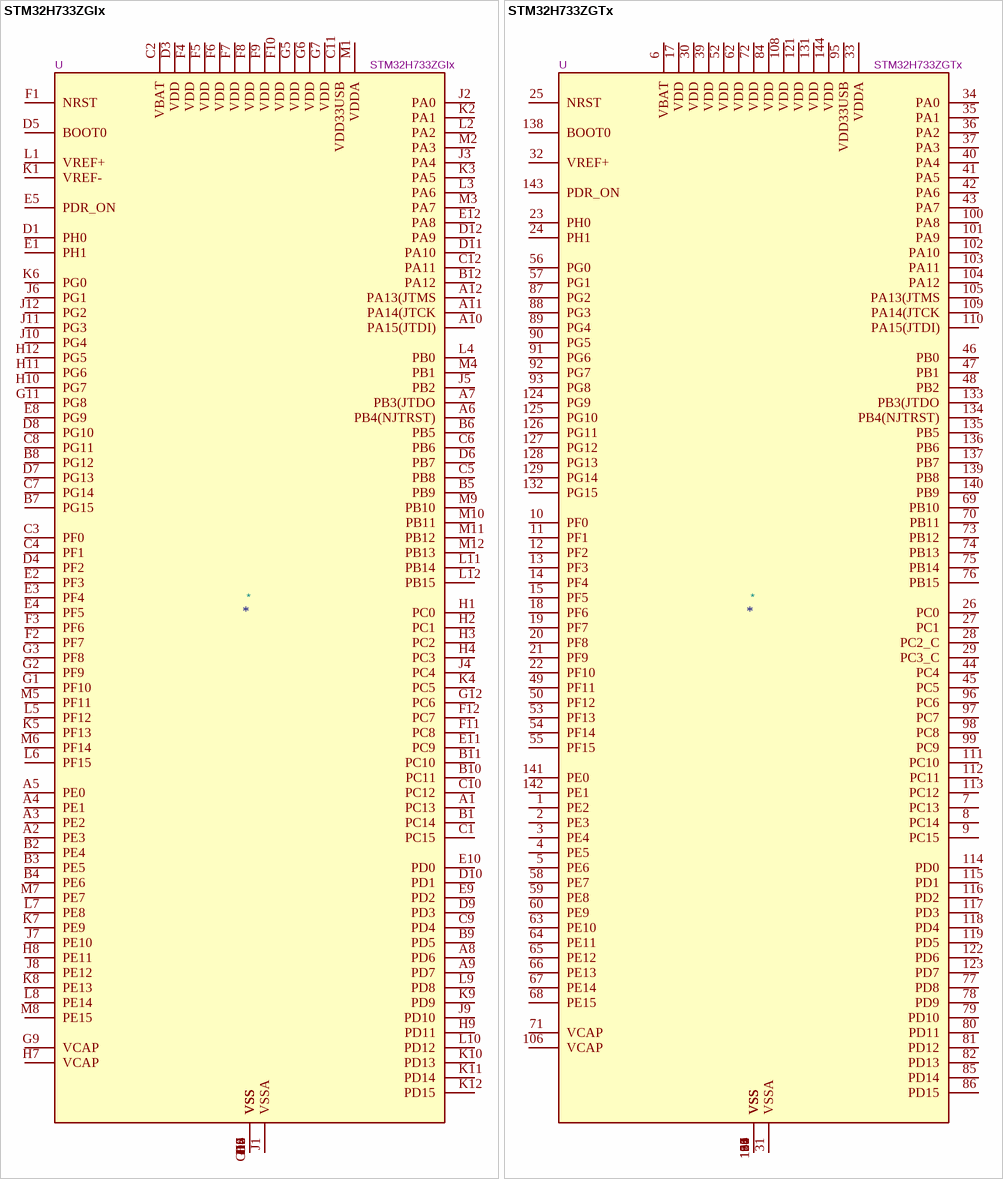
[diagram p51: symbols STM32H733ZGIx to STM32H733ZGTx]

## STM32H733ZGIx
designator *  value STM32H733ZGIx  Reference: U
STMicroelectronics Arm Cortex-M7 MCU, 1024KB flash, 564KB RAM, 550 MHz, 1.62-3.6V, 114 GPIO, UFBGA144; ki_keywords: Arm Cortex-M7 STM32H7 STM32H723/733; ki_fp_filters: UFBGA*7x7mm*Layout12x12*P0.5mm*; Footprint: Package_BGA:UFBGA-144_7x7mm_Layout12x12_P0.5mm; Datasheet: https://www.st.com/resource/en/datasheet/stm32h733zg.pdf; Description_: STMicroelectronics Arm Cortex-M7 MCU, 1024KB flash, 564KB RAM, 550 MHz, 1.62-3.6V, 114 GPIO, UFBGA144
pins: A1 PC13, A2 PE3, A3 PE2, A4 PE1, A5 PE0, A6 PB4(NJTRST), A7 PB3(JTDO, A8 PD6, A9 PD7, A10 PA15(JTDI), A11 PA14(JTCK, A12 PA13(JTMS, B1 PC14, B2 PE4, B3 PE5, B4 PE6, B5 PB9, B6 PB5, B7 PG15, B8 PG12, B9 PD5, B10 PC11, B11 PC10, B12 PA12, C1 PC15, C2 VBAT, C3 PF0, C4 PF1, C5 PB8, C6 PB6, C7 PG14, C8 PG11, C9 PD4, C10 PC12, C11 VDD33USB, C12 PA11, D1 PH0, D2 VSS, D3 VDD, D4 PF2, D5 BOOT0, D6 PB7, D7 PG13, D8 PG10, D9 PD3, D10 PD1, D11 PA10, D12 PA9, E1 PH1, E2 PF3, E3 PF4, E4 PF5, E5 PDR_ON, E6 VSS, E7 VSS, E8 PG9, E9 PD2, E10 PD0, E11 PC9, E12 PA8, F1 NRST, F2 PF7, F3 PF6, F4 VDD, F5 VDD, F6 VDD, F7 VDD, F8 VDD, F9 VDD, F10 VDD, F11 PC8, F12 PC7, G1 PF10, G2 PF9, G3 PF8, G4 VSS, G5 VDD, G6 VDD, G7 VDD, G8 VSS, G9 VCAP, G10 VSS, G11 PG8, G12 PC6, H1 PC0, H2 PC1, H3 PC2, H4 PC3, H5 VSS, H6 VSS, H7 VCAP, H8 PE11, H9 PD11, H10 PG7, H11 PG6, H12 PG5, J1 VSSA, J2 PA0, J3 PA4, J4 PC4, J5 PB2, J6 PG1, J7 PE10, J8 PE12, J9 PD10, J10 PG4, J11 PG3, J12 PG2, K1 VREF-, K2 PA1, K3 PA5, K4 PC5, K5 PF13, K6 PG0, K7 PE9, K8 PE13, K9 PD9, K10 PD13, K11 PD14, K12 PD15, L1 VREF+, L2 PA2, L3 PA6, L4 PB0, L5 PF12, L6 PF15, L7 PE8, L8 PE14, L9 PD8, L10 PD12, L11 PB14, L12 PB15, M1 VDDA, M2 PA3, M3 PA7, M4 PB1, M5 PF11, M6 PF14, M7 PE7, M8 PE15, M9 PB10, M10 PB11, M11 PB12, M12 PB13

## STM32H733ZGTx
designator *  value STM32H733ZGTx  Reference: U
STMicroelectronics Arm Cortex-M7 MCU, 1024KB flash, 564KB RAM, 550 MHz, 1.62-3.6V, 114 GPIO, LQFP144; ki_keywords: Arm Cortex-M7 STM32H7 STM32H723/733; ki_fp_filters: LQFP*20x20mm*P0.5mm*; Footprint: Package_QFP:LQFP-144_20x20mm_P0.5mm; Datasheet: https://www.st.com/resource/en/datasheet/stm32h733zg.pdf; Description_: STMicroelectronics Arm Cortex-M7 MCU, 1024KB flash, 564KB RAM, 550 MHz, 1.62-3.6V, 114 GPIO, LQFP144
pins: 1 PE2, 2 PE3, 3 PE4, 4 PE5, 5 PE6, 6 VBAT, 7 PC13, 8 PC14, 9 PC15, 10 PF0, 11 PF1, 12 PF2, 13 PF3, 14 PF4, 15 PF5, 16 VSS, 17 VDD, 18 PF6, 19 PF7, 20 PF8, 21 PF9, 22 PF10, 23 PH0, 24 PH1, 25 NRST, 26 PC0, 27 PC1, 28 PC2_C, 29 PC3_C, 30 VDD, 31 VSSA, 32 VREF+, 33 VDDA, 34 PA0, 35 PA1, 36 PA2, 37 PA3, 38 VSS, 39 VDD, 40 PA4, 41 PA5, 42 PA6, 43 PA7, 44 PC4, 45 PC5, 46 PB0, 47 PB1, 48 PB2, 49 PF11, 50 PF12, 51 VSS, 52 VDD, 53 PF13, 54 PF14, 55 PF15, 56 PG0, 57 PG1, 58 PE7, 59 PE8, 60 PE9, 61 VSS, 62 VDD, 63 PE10, 64 PE11, 65 PE12, 66 PE13, 67 PE14, 68 PE15, 69 PB10, 70 PB11, 71 VCAP, 72 VDD, 73 PB12, 74 PB13, 75 PB14, 76 PB15, 77 PD8, 78 PD9, 79 PD10, 80 PD11, 81 PD12, 82 PD13, 83 VSS, 84 VDD, 85 PD14, 86 PD15, 87 PG2, 88 PG3, 89 PG4, 90 PG5, 91 PG6, 92 PG7, 93 PG8, 94 VSS, 95 VDD33USB, 96 PC6, 97 PC7, 98 PC8, 99 PC9, 100 PA8, 101 PA9, 102 PA10, 103 PA11, 104 PA12, 105 PA13(JTMS, 106 VCAP, 107 VSS, 108 VDD, 109 PA14(JTCK, 110 PA15(JTDI), 111 PC10, 112 PC11, 113 PC12, 114 PD0, 115 PD1, 116 PD2, 117 PD3, 118 PD4, 119 PD5, 120 VSS, 121 VDD, 122 PD6, 123 PD7, 124 PG9, 125 PG10, 126 PG11, 127 PG12, 128 PG13, 129 PG14, 130 VSS, 131 VDD, 132 PG15, 133 PB3(JTDO, 134 PB4(NJTRST), 135 PB5, 136 PB6, 137 PB7, 138 BOOT0, 139 PB8, 140 PB9, 141 PE0, 142 PE1, 143 PDR_ON, 144 VDD

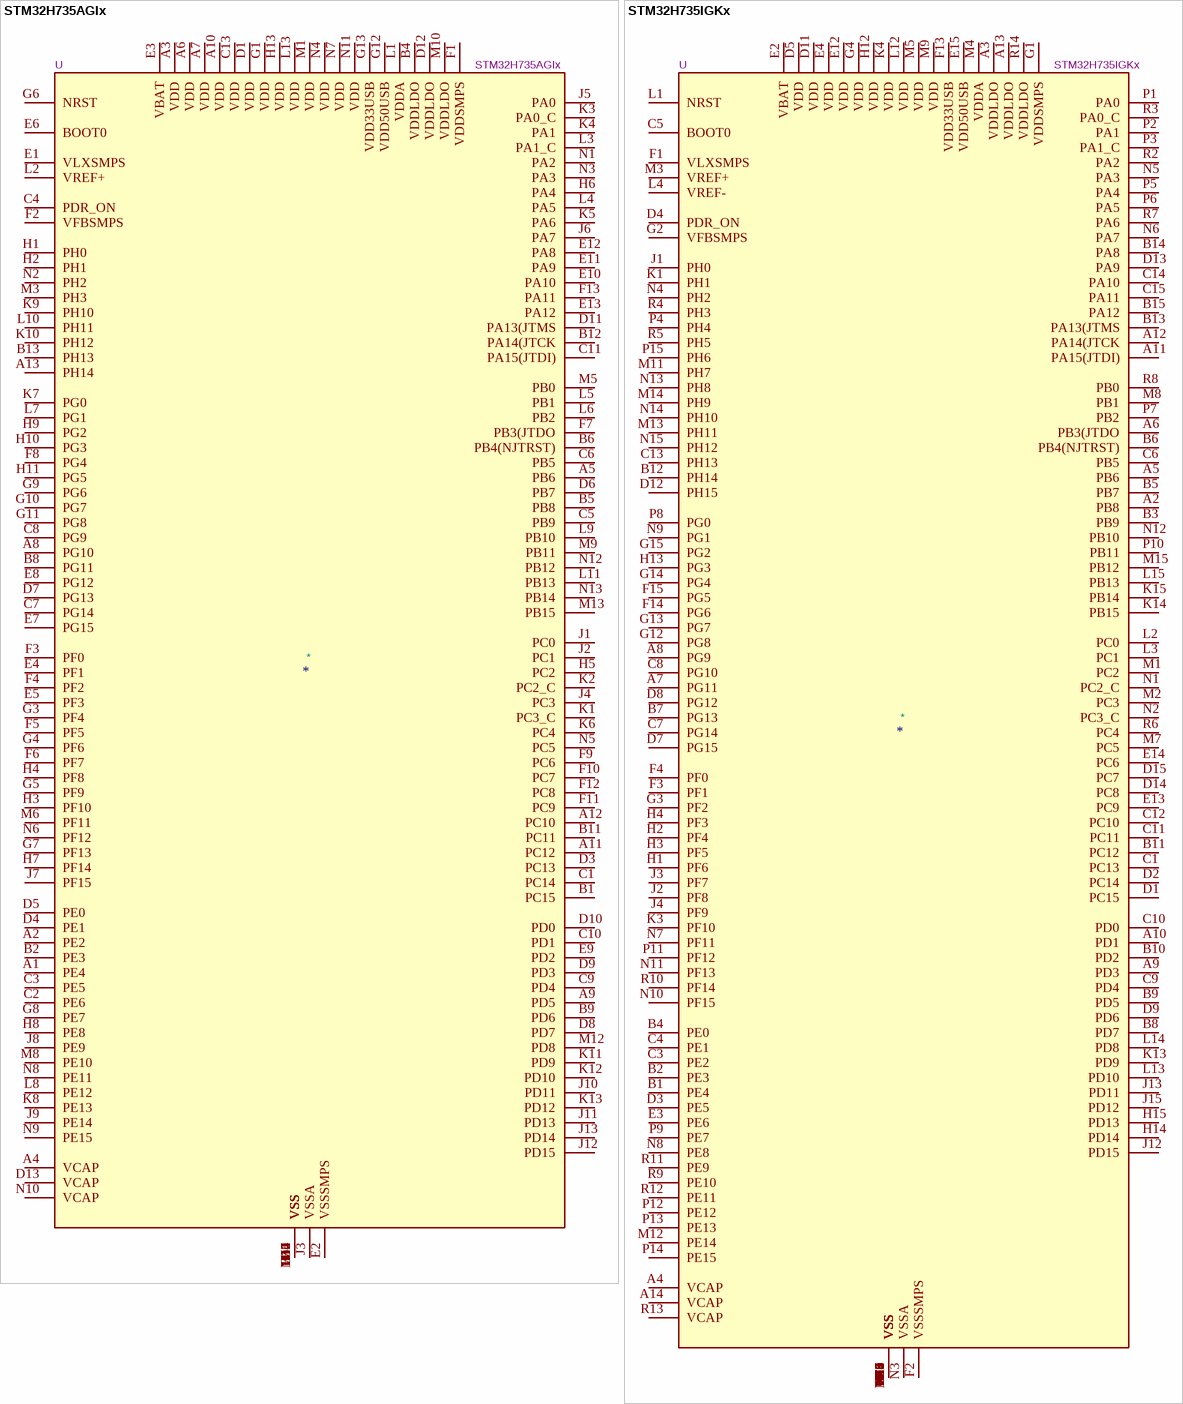
[diagram p52: symbols STM32H735AGIx to STM32H735IGKx]

## STM32H735AGIx
designator *  value STM32H735AGIx  Reference: U
STMicroelectronics Arm Cortex-M7 MCU, 1024KB flash, 564KB RAM, 550 MHz, 1.62-3.6V, 125 GPIO, UFBGA169; ki_keywords: Arm Cortex-M7 STM32H7 STM32H725/735; ki_fp_filters: UFBGA*7x7mm*Layout13x13*P0.5mm*; Footprint: Package_BGA:UFBGA-169_7x7mm_Layout13x13_P0.5mm; Datasheet: https://www.st.com/resource/en/datasheet/stm32h735ag.pdf; Description_: STMicroelectronics Arm Cortex-M7 MCU, 1024KB flash, 564KB RAM, 550 MHz, 1.62-3.6V, 125 GPIO, UFBGA169
pins: A1 PE4, A2 PE2, A3 VDD, A4 VCAP, A5 PB6, A6 VDD, A7 VDD, A8 PG10, A9 PD5, A10 VDD, A11 PC12, A12 PC10, A13 PH14, B1 PC15, B2 PE3, B3 VSS, B4 VDDLDO, B5 PB8, B6 PB4(NJTRST), B7 VSS, B8 PG11, B9 PD6, B10 VSS, B11 PC11, B12 PA14(JTCK, B13 PH13, C1 PC14, C2 PE6, C3 PE5, C4 PDR_ON, C5 PB9, C6 PB5, C7 PG14, C8 PG9, C9 PD4, C10 PD1, C11 PA15(JTDI), C12 VSS, C13 VDD, D1 VDD, D2 VSS, D3 PC13, D4 PE1, D5 PE0, D6 PB7, D7 PG13, D8 PD7, D9 PD3, D10 PD0, D11 PA13(JTMS, D12 VDDLDO, D13 VCAP, E1 VLXSMPS, E2 VSSSMPS, E3 VBAT, E4 PF1, E5 PF3, E6 BOOT0, E7 PG15, E8 PG12, E9 PD2, E10 PA10, E11 PA9, E12 PA8, E13 PA12, F1 VDDSMPS, F2 VFBSMPS, F3 PF0, F4 PF2, F5 PF5, F6 PF7, F7 PB3(JTDO, F8 PG4, F9 PC6, F10 PC7, F11 PC9, F12 PC8, F13 PA11, G1 VDD, G2 VSS, G3 PF4, G4 PF6, G5 PF9, G6 NRST, G7 PF13, G8 PE7, G9 PG6, G10 PG7, G11 PG8, G12 VDD50USB, G13 VDD33USB, H1 PH0, H2 PH1, H3 PF10, H4 PF8, H5 PC2, H6 PA4, H7 PF14, H8 PE8, H9 PG2, H10 PG3, H11 PG5, H12 VSS, H13 VDD, J1 PC0, J2 PC1, J3 VSSA, J4 PC3, J5 PA0, J6 PA7, J7 PF15, J8 PE9, J9 PE14, J10 PD11, J11 PD13, J12 PD15, J13 PD14, K1 PC3_C, K2 PC2_C, K3 PA0_C, K4 PA1, K5 PA6, K6 PC4, K7 PG0, K8 PE13, K9 PH10, K10 PH12, K11 PD9, K12 PD10, K13 PD12, L1 VDDA, L2 VREF+, L3 PA1_C, L4 PA5, L5 PB1, L6 PB2, L7 PG1, L8 PE12, L9 PB10, L10 PH11, L11 PB13, L12 VSS, L13 VDD, M1 VDD, M2 VSS, M3 PH3, M4 VSS, M5 PB0, M6 PF11, M7 VSS, M8 PE10, M9 PB11, M10 VDDLDO, M11 VSS, M12 PD8, M13 PB15, N1 PA2, N2 PH2, N3 PA3, N4 VDD, N5 PC5, N6 PF12, N7 VDD, N8 PE11, N9 PE15, N10 VCAP, N11 VDD, N12 PB12, N13 PB14